# Altium schematic symbol library kalios.SchLib: 578 symbols (part 1 of 4)
Pins are listed as number, name and electrical type; pins without a type are passive.

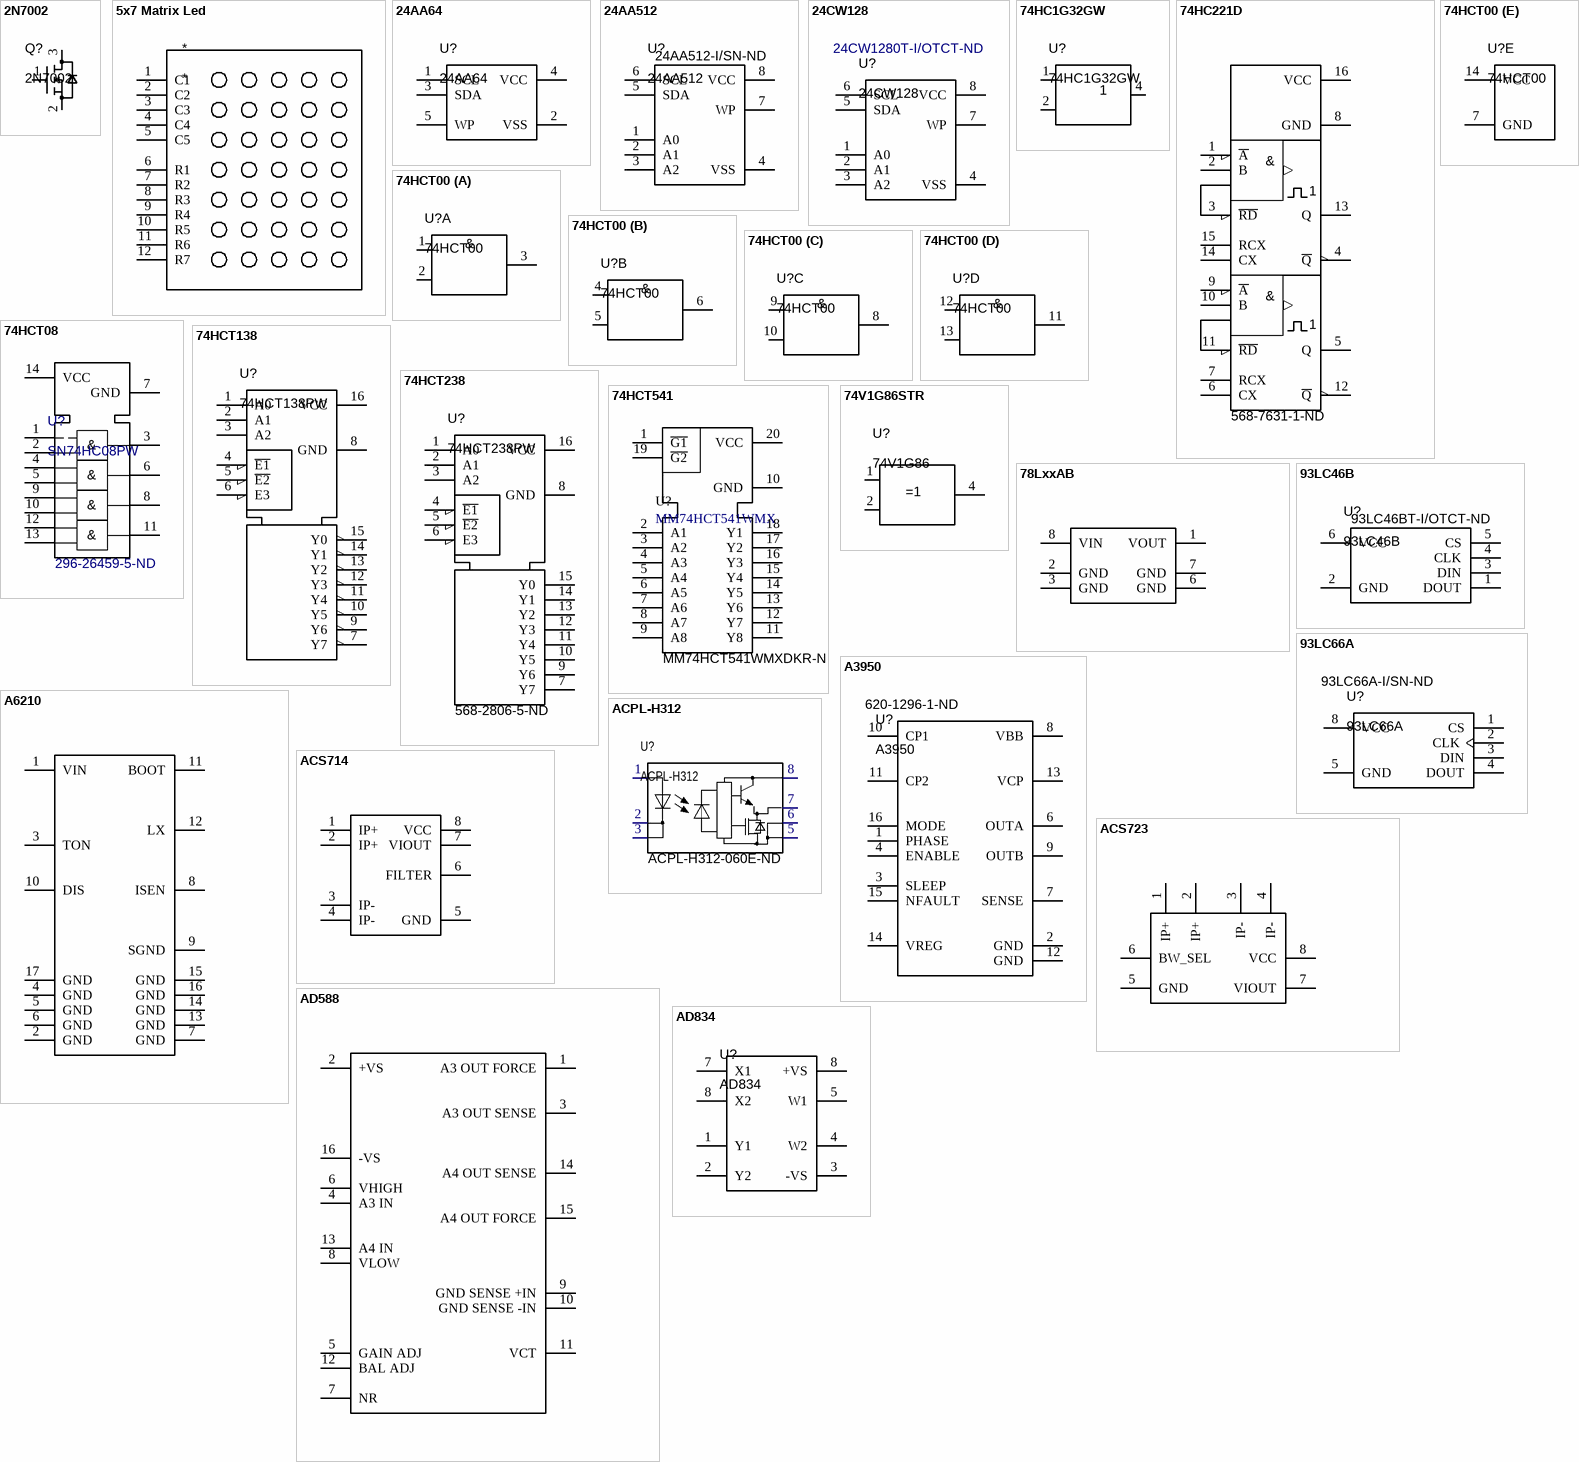
[diagram p0: symbols 2N7002 to AD834]

## 2N7002
designator Q?
MOSFET N-CH 60V 115MA SOT323; Value: 2N7002; Supplier 1: Digi-Key; Supplier Part Number 1: 2N7002H6327XTSA2CT-ND
footprint SOT323-3/SC-70/SOT65P210X110-3N
pins: 1 VCC, 2 VCC, 3 VCC

## 5x7 Matrix Led
designator *
pins: 1 C1, 2 C2, 3 C3, 4 C4, 5 C5, 6 R1, 7 R2, 8 R3, 9 R4, 10 R5, 11 R6, 12 R7

## 24AA64
designator U?
pins: 1 SCL, 2 VSS, 3 SDA, 4 VCC, 5 WP

## 24AA512
designator U?  Supplier Part Number 1: 24AA512-I/SN-ND
Supplier 1: Digi-Key
footprint SOIC8 (8-Pin Small Outline Integrated Circuit 1.27 mm Pitch, IPC Low Density)
pins: 1 A0, 2 A1, 3 A2, 4 VSS, 5 SDA, 6 SCL, 7 WP, 8 VCC

## 24CW128
designator U?  Supplier Part Number 1: 24CW1280T-I/OTCT-ND
Supplier 1: Digi-Key
footprint SOIC8 (8-Pin Small Outline Integrated Circuit 1.27 mm Pitch, IPC Low Density)
pins: 1 A0, 2 A1, 3 A2, 4 VSS, 5 SDA, 6 SCL, 7 WP, 8 VCC

## 74HC1G32GW
designator U?
2-input OR gate; Supplier 1: Farnell; Supplier 2: Digi-Key; Supplier Part Number 1: 1085255; Supplier Part Number 2: 74HC1G32GW,165-ND
footprint SOT23-5BL (SOT23, 5-Leads, Body 2.9x1.6mm, Pitch 0.95mm, Lead Span 2.8mm, IPC High Density)
pins: 1 B, 2 A, 3 GND (power) hidden to GND, 4 Y, 5 VCC (power) hidden to VCC

## 74HC221D
designator U?  Supplier Part Number 2: 568-7631-1-ND
IC DUAL MULTI-VIBRATOR 16SOIC; Supplier 1: Digi-Key; Supplier 2: Digi-Key
footprint SOIC16 (SOIC, 16-Leads, Body 10.0x4.0mm (max), Pitch 1.27mm, IPC Low Density)
pins: 1 ~{A}, 2 B, 3 ~{RD}, 4 ~{Q}, 5 Q, 6 CX, 7 RCX, 8 GND, 9 ~{A}, 10 B, 11 ~{RD}, 12 ~{Q}, 13 Q, 14 CX, 15 RCX, 16 VCC
text: &

## 74HCT00
designator U?
footprint SOIC14 (14-Pin Small Outline Integrated Circuit 1.27 mm Pitch, IPC Low Density)
part A pins: 1 A, 2 A, 3 A
part B pins: 4 A, 5 B, 6 Y
part C pins: 8 Y, 9 A, 10 B
part D pins: 11 Y, 12 A, 13 B
part E pins: 7 GND, 14 VCC
part A text: &
part B text: &
part C text: &
part D text: &

## 74HCT08
designator U?, comment SN74HC08PW  Supplier Part Number 1: 296-26459-5-ND
Supplier 1: Digi-Key; Value: SN74HC08PW
footprint TSSOP14 (Shrink Small Outline; 14 Leads; Body Width 4.4 mm; Pitch 0.65 mm)
pins: 1 1A, 2 1B, 3 1Y, 4 2A, 5 2B, 6 2Y, 7 GND, 8 3Y, 9 3A, 10 3B, 11 4Y, 12 4A, 13 4B, 14 VCC
text: &

## 74HCT138
designator U?, comment 74HCT138PW
3-to-8 line decoder/demultiplexer
footprint TSSOP16 (Footprint not found)
pins: 1 A0, 2 A1, 3 A2, 4 ~{E1}, 5 ~{E2}, 6 E3, 7 Y7, 8 GND, 9 Y6, 10 Y5, 11 Y4, 12 Y3, 13 Y2, 14 Y1, 15 Y0, 16 VCC

## 74HCT238
designator U?, comment 74HCT238PW  Supplier Part Number 1: 568-2806-5-ND
3-to-8 line decoder/demultiplexer; Supplier 1: Digi-Key
footprint TSSOP16 (Footprint not found)
pins: 1 A0, 2 A1, 3 A2, 4 ~{E1}, 5 ~{E2}, 6 E3, 7 Y7, 8 GND, 9 Y6, 10 Y5, 11 Y4, 12 Y3, 13 Y2, 14 Y1, 15 Y0, 16 VCC

## 74HCT541
designator U?, comment MM74HCT541WMX  Supplier Part Number 1: MM74HCT541WMXDKR-ND
IC BUFF/DVR TRI-ST 8BIT 20SOIC; Supplier 1: Digi-Key
footprint SOIC20 (SOIC, 20-Leads, Body 13.0x7.6mm (max), Pitch 1.27mm, IPC Low Density)
pins: 1 ~{G1}, 2 A1, 3 A2, 4 A3, 5 A4, 6 A5, 7 A6, 8 A7, 9 A8, 10 GND, 11 Y8, 12 Y7, 13 Y6, 14 Y5, 15 Y4, 16 Y3, 17 Y2, 18 Y1, 19 ~{G2}, 20 VCC

## 74V1G86STR
designator U?, comment 74V1G86
Value: 74V1G86
pins: 1 1A, 2 1B, 3 GND (power) hidden to GND, 4 Y, VCC 5 (power) hidden to VCC "VCC"

## 78LxxAB
designator U?
V REG LINEAR SOIC8; Supplier 1: Digi-Key
footprint SOIC8 (8-Pin Small Outline Integrated Circuit 1.27 mm Pitch, IPC Low Density)
pins: 1 VOUT, 2 GND, 3 GND, 6 GND, 7 GND, 8 VIN

## 93LC46B
designator U?  Supplier Part Number 1: 93LC46BT-I/OTCT-ND
Supplier 1: Digi-Key
footprint SOT23-6 (SOT23, 6-Leads, Body 3.1x3.2mm (max), Pitch 0.95mm, IPC Medium Density)
pins: 1 DOUT, 2 GND, 3 DIN, 4 CLK, 5 CS, 6 VCC

## 93LC66A
designator U?  Supplier Part Number 1: 93LC66A-I/SN-ND
Supplier 1: Digi-Key
footprint soic8 (8-Pin Small Outline Integrated Circuit 1.27 mm Pitch, IPC Low Density)
pins: 1 CS, 2 CLK, 3 DIN, 4 DOUT, 5 GND, 8 VCC

## A3950
designator U?  Supplier Part Number 1: 620-1296-1-ND
Supplier 1: Digi-Key
pins: 1 PHASE, 2 GND, 3 SLEEP, 4 ENABLE, 6 OUTA, 7 SENSE, 8 VBB, 9 OUTB, 10 CP1, 11 CP2, 12 GND, 13 VCP, 14 VREG, 15 NFAULT, 16 MODE

## A6210
designator U?
IC LED DRIVER HIGH BRIGHT 16-QFN; Supplier 1: Digi-Key
footprint QFN16 (Footprint not found)
pins: 1 VIN, 2 GND, 3 TON, 4 GND, 5 GND, 6 GND, 7 GND, 8 ISEN, 9 SGND, 10 DIS, 11 BOOT, 12 LX, 13 GND, 14 GND, 15 GND, 16 GND, 17 GND

## ACPL-H312
designator U?  Supplier Part Number 2: ACPL-H312-060E-ND
Supplier 1: Farnell; Supplier 2: Digi-Key
footprint ACPL-H
pins: 1 A, 2 C, 3 C, 5 VEE, 6 VEE, 7 VO, 8 VCC

## ACS714
designator U?
Supplier 1: Digi-Key
footprint SOIC8 (8-Pin Small Outline Integrated Circuit 1.27 mm Pitch, IPC Low Density)
pins: 1 IP+, 2 IP+, 3 IP-, 4 IP-, 5 GND, 6 FILTER, 7 VIOUT, 8 VCC

## ACS723
designator U?, comment ACS723LLCTR-10AU-T  Supplier Part Number 1: 620-1643-1-ND
Supplier 1: Digi-Key
footprint SOIC8 (8-Pin Small Outline Integrated Circuit 1.27 mm Pitch, IPC Low Density)
pins: 1 IP+, 2 IP+, 3 IP-, 4 IP-, 5 GND, 6 BW_SEL, 7 VIOUT, 8 VCC

## AD588
designator D?, comment LTST-C170CKT
Led 0805 Red; Supplier 1: Digi-Key
footprint SOIC127P1030X265-16N (SOIC, 16-Leads, Body 10.5x7.6mm (max), Pitch 1.27mm, IPC Medium Density)
pins: 1 A3 OUT FORCE, 2 +VS, 3 A3 OUT SENSE, 4 A3 IN, 5 GAIN ADJ, 6 VHIGH, 7 NR, 8 VLOW, 9 GND SENSE +IN, 10 GND SENSE -IN, 11 VCT, 12 BAL ADJ, 13 A4 IN, 14 A4 OUT SENSE, 15 A4 OUT FORCE, 16 -VS

## AD834
designator U?
footprint SOIC8 (8-Pin Small Outline Integrated Circuit 1.27 mm Pitch, IPC Low Density)
pins: 1 Y1, 2 Y2, 3 -VS, 4 W2, 5 W1, 7 X1, 8 X2, 8 +VS

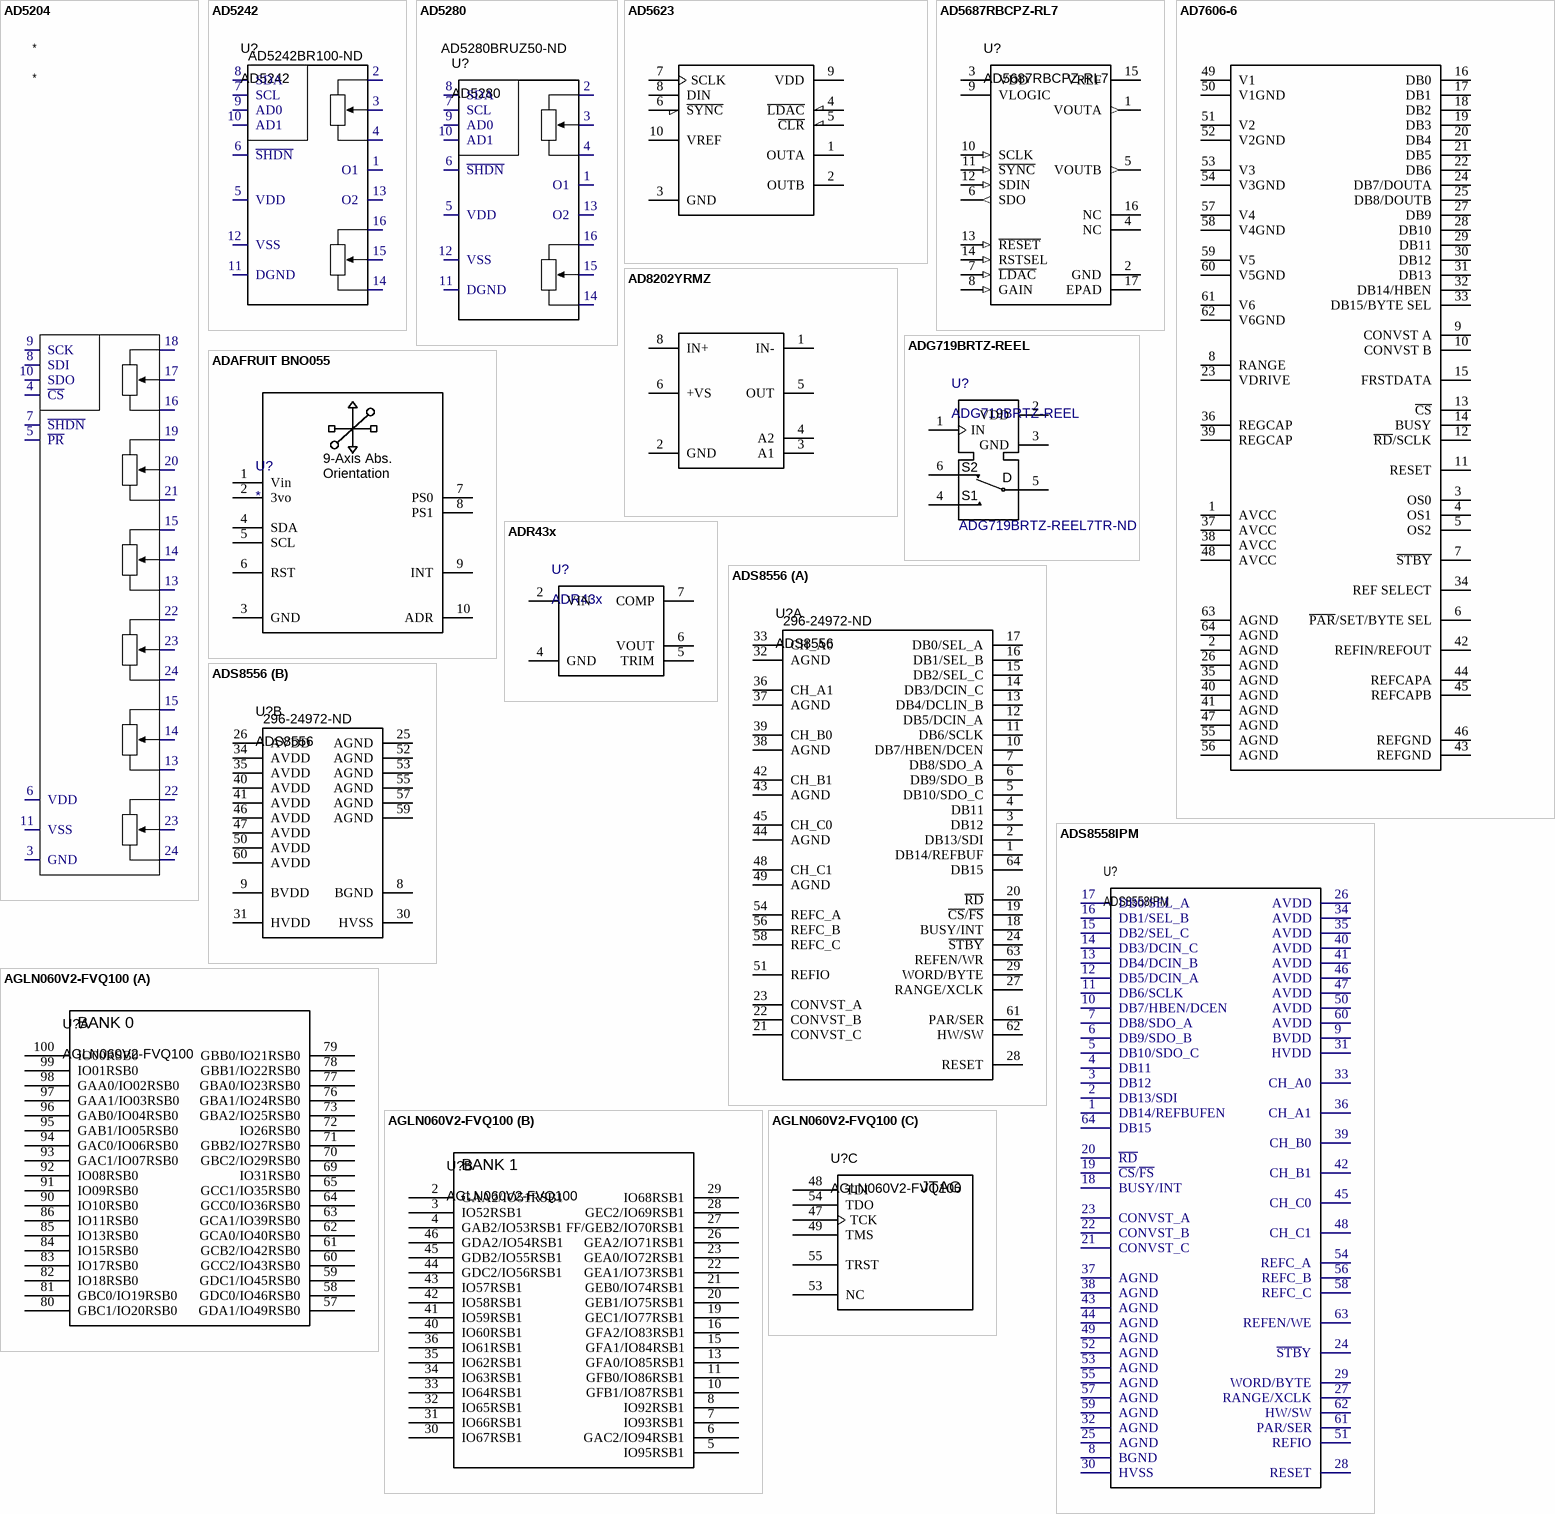
[diagram p1: symbols AD5204 to AGLN060V2-FVQ100]

## AD5204
designator *
pins: 3 GND, 4 ~{CS}, 5 ~{PR}, 6 VDD, 7 ~{SHDN}, 8 SDI, 9 SCK, 10 SDO, 11 VSS, 13 B3, 13 B5, 14 W3, 14 W5, 15 A3, 15 A5, 16 B1, 17 W1, 18 A1, 19 A2, 20 W2, 21 B2, 22 A4, 22 A6, 23 W4, 23 W6, 24 B4, 24 B6

## AD5242
designator U?  Supplier Part Number 1: AD5242BR100-ND
Supplier 1: Digi-Key
footprint SOIC16 (SOIC, 16-Leads, Body 10.0x4.0mm (max), Pitch 1.27mm, IPC Low Density)
pins: 1 O1, 2 A1, 3 W1, 4 B1, 5 VDD, 6 ~{SHDN}, 7 SCL, 8 SDA, 9 AD0, 10 AD1, 11 DGND, 12 VSS, 13 O2, 14 B2, 15 W2, 16 A2

## AD5280
designator U?  Supplier Part Number 1: AD5280BRUZ50-ND
Supplier 1: Digi-Key
footprint SOIC16 (SOIC, 16-Leads, Body 10.0x4.0mm (max), Pitch 1.27mm, IPC Low Density)
pins: 1 O1, 2 A1, 3 W1, 4 B1, 5 VDD, 6 ~{SHDN}, 7 SCL, 8 SDA, 9 AD0, 10 AD1, 11 DGND, 12 VSS, 13 O2, 14 B2, 15 W2, 16 A2

## AD5623
designator U?, comment AD5623 RBRMZ-3
Dual DAC; Supplier 1: Digi-Key
footprint MSOP10 (TSSOP, 10-Leads, Body 3.00x3.00mm, Pitch 0.50mm, Thermal Pad 1.68.2x1.68.2mm, IPC Medium Density)
pins: 1 OUTA, 2 OUTB, 3 GND, 4 ~{LDAC}, 5 ~{CLR}, 6 ~{SYNC}, 7 SCLK, 8 DIN, 9 VDD, 10 VREF

## AD5687RBCPZ-RL7
designator U?
12 Bit Digital to Analog Converter 2 16-LFCSP (3x3); Supplier 1: Digi-Key; Supplier Part Number 1: 505-AD5687RBCPZ-RL7CT-ND
pins: 1 VOUTA (out) "Analog Output Voltage from DAC A", 2 GND (power), 3 VDD (power) "Power Supply Input", 4 NC, 5 VOUTB (out) "Analog Output Voltage from DAC B", 6 SDO (out), 7 ~{LDAC} (in), 8 GAIN (in), 9 VLOGIC (power) "Digital Power Supply", 10 SCLK (in), 11 ~{SYNC} (in), 12 SDIN (in), 13 ~{RESET} (in), 14 RSTSEL (in), 15 VREF, 16 NC, 17 EPAD

## AD7606-6
designator U?  Supplier Part Number 2: AD7606BSTZ-6RLCT-ND
IC DAS W/ADC 16BIT 6CH 64LQFP; Supplier 1: Digi-Key; Supplier 2: Digi-Key
footprint LQFP-64 (64-Pin Thin Quad Flat Pack 0.5 mm Pitch, IPC High Density)
pins: 1 AVCC, 2 AGND, 3 OS0, 4 OS1, 5 OS2, 6 ~{PAR}/SET/BYTE SEL, 7 ~{STBY}, 8 RANGE, 9 CONVST A, 10 CONVST B, 11 RESET, 12 ~{RD}/SCLK, 13 ~{CS}, 14 BUSY, 15 FRSTDATA, 16 DB0, 17 DB1, 18 DB2, 19 DB3, 20 DB4, 21 DB5, 22 DB6, 23 VDRIVE, 24 DB7/DOUTA, 25 DB8/DOUTB, 26 AGND, 27 DB9, 28 DB10, 29 DB11, 30 DB12, 31 DB13, 32 DB14/HBEN, 33 DB15/BYTE SEL, 34 REF SELECT, 35 AGND, 36 REGCAP, 37 AVCC, 38 AVCC, 39 REGCAP, 40 AGND, 41 AGND, 42 REFIN/REFOUT, 43 REFGND, 44 REFCAPA, 45 REFCAPB, 46 REFGND, 47 AGND, 48 AVCC, 49 V1, 50 V1GND, 51 V2, 52 V2GND, 53 V3, 54 V3GND, 55 AGND, 56 AGND, 57 V4, 58 V4GND, 59 V5, 60 V5GND, 61 V6, 62 V6GND, 63 AGND, 64 AGND

## AD8202YRMZ
designator U?
DIfferential Amplifier; Supplier 1: Digi-Key
footprint MSOP8
pins: 1 IN-, 2 GND, 3 A1, 4 A2, 5 OUT, 6 +VS, 8 IN+

## ADAFRUIT BNO055
designator U?
footprint ADAFRUIT-BNO055
pins: 1 Vin, 2 3vo, 3 GND, 4 SDA, 5 SCL, 6 RST, 7 PS0, 8 PS1, 9 INT, 10 ADR
text: 9-Axis Abs.; Orientation

## ADG719BRTZ-REEL
designator U?  Supplier Part Number 1: ADG719BRTZ-REEL7TR-ND
IC SWITCH SPDT SOT23-6 / 1 Circuit IC Switch 2:1 4Ohm SOT-23-6; Supplier 1: Digi-Key
footprint SOT23-6 (SOT23, 6-Leads, Body 3.1x3.2mm (max), Pitch 0.95mm, IPC Medium Density)
pins: 1 IN, 2 VDD, 3 GND, 4 S1, 5 D, 6 S2
1 alternate drawing of the same symbol

## ADR43x
designator U?
Voltage reference
footprint SOIC8 (8-Pin Small Outline Integrated Circuit 1.27 mm Pitch, IPC Low Density)
pins: 2 VIN, 4 GND, 5 TRIM, 6 VOUT, 7 COMP

## ADS8556
designator U?  Supplier Part Number 1: 296-24972-ND
ADC 16-Bit Six Channel Simultaneous Sampling; Supplier 1: Digi-Key
footprint LQFP-64 (64-Pin Thin Quad Flat Pack 0.5 mm Pitch, IPC High Density)
part A pins: 1 DB14/REFBUF, 2 DB13/SDI, 3 DB12, 4 DB11, 5 DB10/SDO_C, 6 DB9/SDO_B, 7 DB8/SDO_A, 10 DB7/HBEN/DCEN, 11 DB6/SCLK, 12 DB5/DCIN_A, 13 DB4/DCLIN_B, 14 DB3/DCIN_C, 15 DB2/SEL_C, 16 DB1/SEL_B, 17 DB0/SEL_A, 18 BUSY/INT, 19 ~{CS}/~{FS}, 20 ~{RD}, 21 CONVST_C, 22 CONVST_B, 23 CONVST_A, 24 ~{STBY}, 27 RANGE/XCLK, 28 RESET, 29 WORD/BYTE, 32 AGND, 33 CH_A0, 36 CH_A1, 37 AGND, 38 AGND, 39 CH_B0, 42 CH_B1, 43 AGND, 44 AGND, 45 CH_C0, 48 CH_C1, 49 AGND, 51 REFIO, 54 REFC_A, 56 REFC_B, 58 REFC_C, 61 PAR/SER, 62 HW/SW, 63 REFEN/WR, 64 DB15
part B pins: 8 BGND, 9 BVDD, 25 AGND, 26 AVDD, 30 HVSS, 31 HVDD, 34 AVDD, 35 AVDD, 40 AVDD, 41 AVDD, 46 AVDD, 47 AVDD, 50 AVDD, 52 AGND, 53 AGND, 55 AGND, 57 AGND, 59 AGND, 60 AVDD

## ADS8558IPM
designator U?
Six-Channel, Simultaneous Sampling ANALOG-TO-DIGITAL CONVERTERS
footprint LQFP64_M (64-Pin Thin Quad Flat Pack 0.8 mm Pitch, IPC Low Density)
pins: 1 DB14/REFBUFEN, 2 DB13/SDI, 3 DB12, 4 DB11, 5 DB10/SDO_C, 6 DB9/SDO_B, 7 DB8/SDO_A, 8 BGND, 9 BVDD, 10 DB7/HBEN/DCEN, 11 DB6/SCLK, 12 DB5/DCIN_A, 13 DB4/DCIN_B, 14 DB3/DCIN_C, 15 DB2/SEL_C, 16 DB1/SEL_B, 17 DB0/SEL_A, 18 BUSY/INT, 19 ~{CS}/~{FS}, 20 ~{RD}, 21 CONVST_C, 22 CONVST_B, 23 CONVST_A, 24 ~{STB}Y, 25 AGND, 26 AVDD, 27 RANGE/XCLK, 28 RESET, 29 WORD/BYTE, 30 HVSS, 31 HVDD, 32 AGND, 33 CH_A0, 34 AVDD, 35 AVDD, 36 CH_A1, 37 AGND, 38 AGND, 39 CH_B0, 40 AVDD, 41 AVDD, 42 CH_B1, 43 AGND, 44 AGND, 45 CH_C0, 46 AVDD, 47 AVDD, 48 CH_C1, 49 AGND, 50 AVDD, 51 REFIO, 52 AGND, 53 AGND, 54 REFC_A, 55 AGND, 56 REFC_B, 57 AGND, 58 REFC_C, 59 AGND, 60 AVDD, 61 PAR/SER, 62 HW/SW, 63 REFEN/WE, 64 DB15

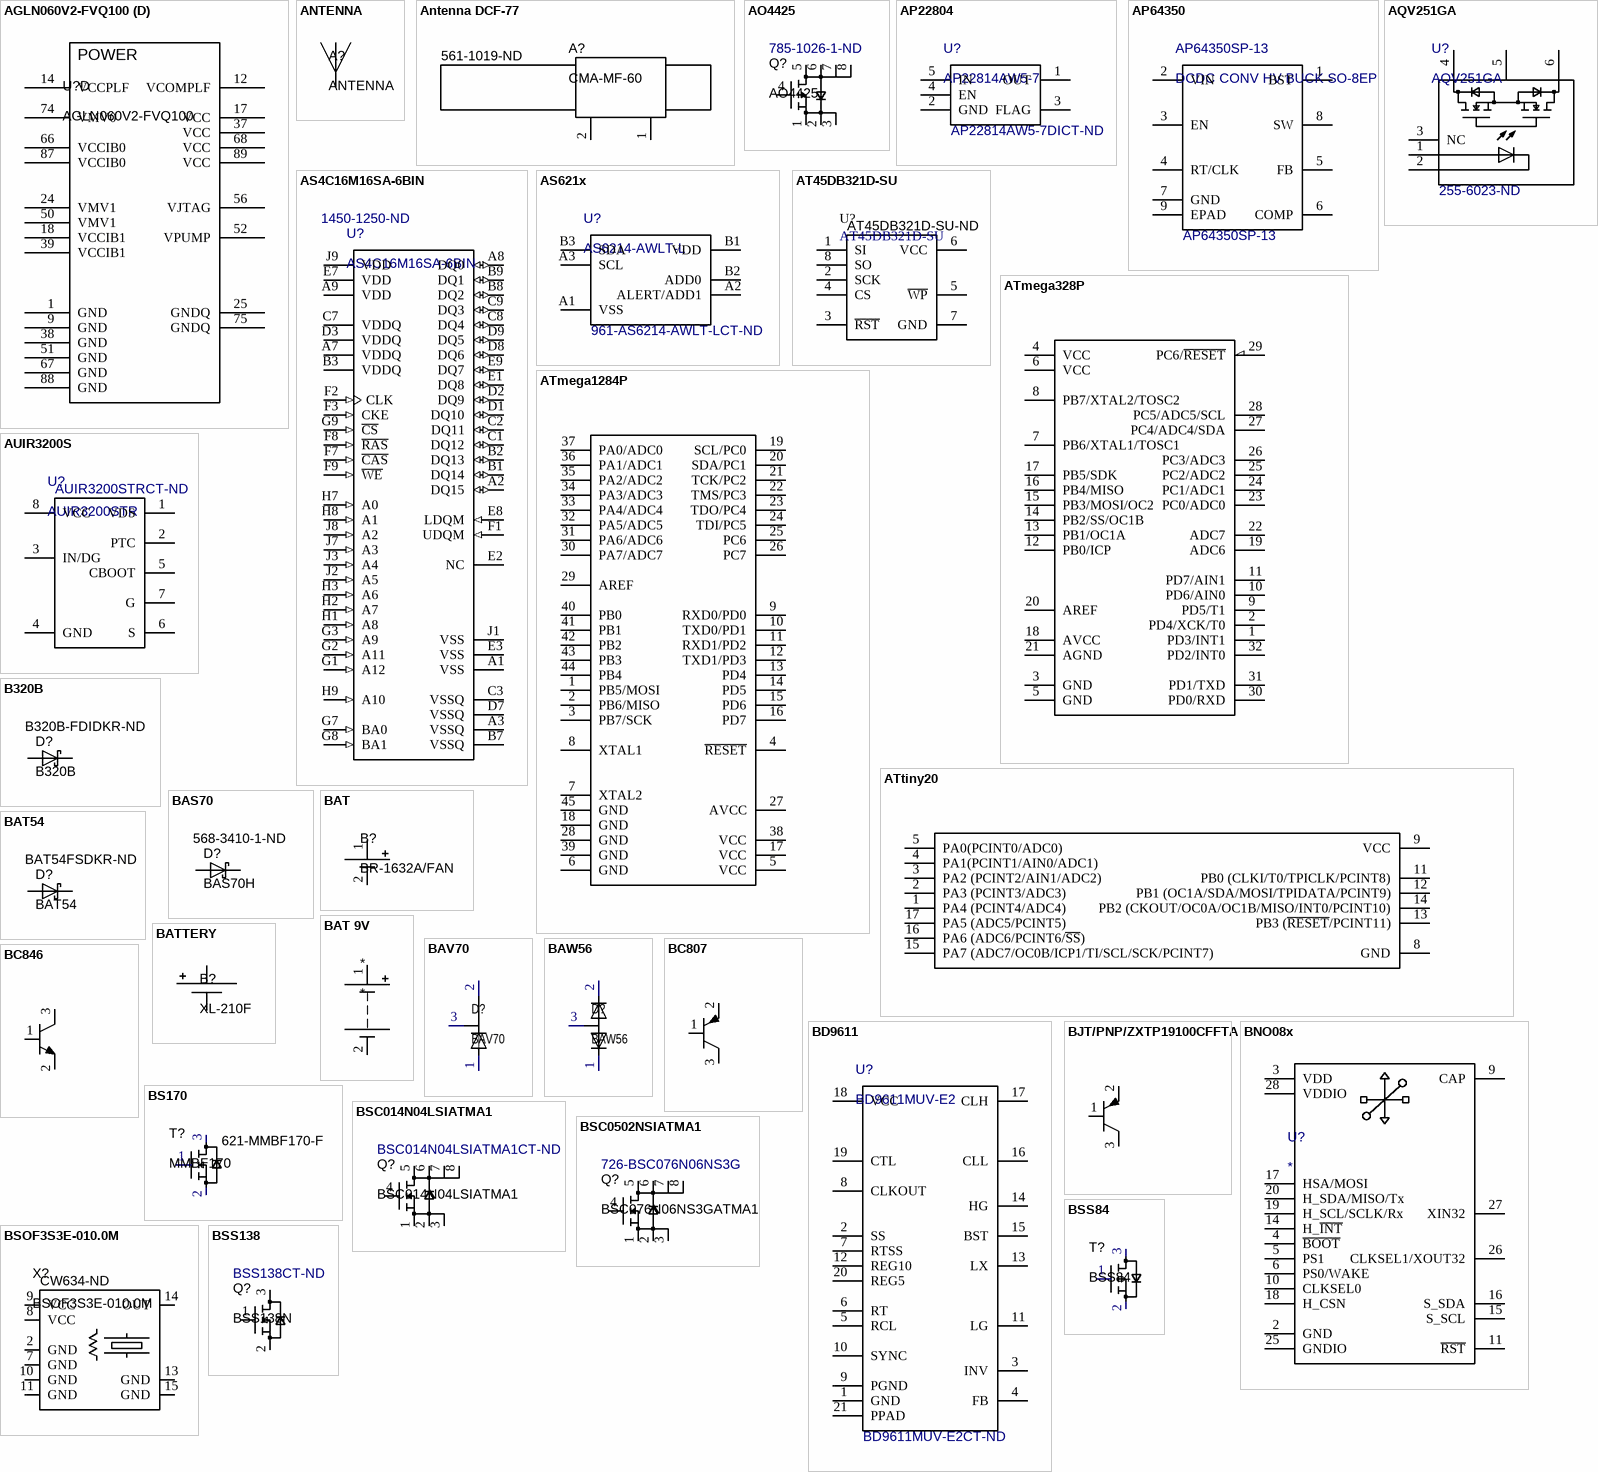
[diagram p2: symbols AGLN060V2-FVQ100 to BSS138]

## AGLN060V2-FVQ100
designator U?
IGLOO nano Low-Power Flash 1.2 to 1.5V FPGA with Flash*Freeze, 71 User IOs, 60K System Gates, 1Kbit Flash ROM, 100-Pin TQFP, Commercial Grade
footprint VQFP100 (TSQFP, 100-Leads, Body 16.0x16.0mm (max), Pitch 0.50mm, IPC Medium Density)
part A pins: 57 GDA1/IO49RSB0, 58 GDC0/IO46RSB0, 59 GDC1/IO45RSB0, 60 GCC2/IO43RSB0, 61 GCB2/IO42RSB0, 62 GCA0/IO40RSB0, 63 GCA1/IO39RSB0, 64 GCC0/IO36RSB0, 65 GCC1/IO35RSB0, 69 IO31RSB0, 70 GBC2/IO29RSB0, 71 GBB2/IO27RSB0, 72 IO26RSB0, 73 GBA2/IO25RSB0, 76 GBA1/IO24RSB0, 77 GBA0/IO23RSB0, 78 GBB1/IO22RSB0, 79 GBB0/IO21RSB0, 80 GBC1/IO20RSB0, 81 GBC0/IO19RSB0, 82 IO18RSB0, 83 IO17RSB0, 84 IO15RSB0, 85 IO13RSB0, 86 IO11RSB0, 90 IO10RSB0, 91 IO09RSB0, 92 IO08RSB0, 93 GAC1/IO07RSB0, 94 GAC0/IO06RSB0, 95 GAB1/IO05RSB0, 96 GAB0/IO04RSB0, 97 GAA1/IO03RSB0, 98 GAA0/IO02RSB0, 99 IO01RSB0, 100 IO00RSB0
part B pins: 2 GAA2/IO51RSB1, 3 IO52RSB1, 4 GAB2/IO53RSB1, 5 IO95RSB1, 6 GAC2/IO94RSB1, 7 IO93RSB1, 8 IO92RSB1, 10 GFB1/IO87RSB1, 11 GFB0/IO86RSB1, 13 GFA0/IO85RSB1, 15 GFA1/IO84RSB1, 16 GFA2/IO83RSB1, 19 GEC1/IO77RSB1, 20 GEB1/IO75RSB1, 21 GEB0/IO74RSB1, 22 GEA1/IO73RSB1, 23 GEA0/IO72RSB1, 26 GEA2/IO71RSB1, 27 FF/GEB2/IO70RSB1, 28 GEC2/IO69RSB1, 29 IO68RSB1, 30 IO67RSB1, 31 IO66RSB1, 32 IO65RSB1, 33 IO64RSB1, 34 IO63RSB1, 35 IO62RSB1, 36 IO61RSB1, 40 IO60RSB1, 41 IO59RSB1, 42 IO58RSB1, 43 IO57RSB1, 44 GDC2/IO56RSB1, 45 GDB2/IO55RSB1, 46 GDA2/IO54RSB1
part C pins: 47 TCK, 48 TDI, 49 TMS, 53 NC, 54 TDO, 55 TRST
part D pins: 1 GND, 9 GND, 12 VCOMPLF, 14 VCCPLF, 17 VCC, 18 VCCIB1, 24 VMV1, 25 GNDQ, 37 VCC, 38 GND, 39 VCCIB1, 50 VMV1, 51 GND, 52 VPUMP, 56 VJTAG, 66 VCCIB0, 67 GND, 68 VCC, 74 VMV0, 75 GNDQ, 87 VCCIB0, 88 GND, 89 VCC
part A text: BANK 0
part B text: BANK 1
part C text: JTAG
part D text: POWER

## ANTENNA
designator A?
pins: 1

## Antenna DCF-77
designator A?, comment CMA-MF-60  Supplier Part Number 1: 561-1019-ND
Supplier 1: Digi-Key
pins: 1, 2

## AO4425
designator Q?  Supplier Part Number 1: 785-1026-1-ND
P-Channel 38 V 14A (Ta) 3.1W (Ta) Surface Mount 8-SOIC; Value: AO4425; Supplier 1: Digi-Key
footprint SOIC8 (8-Pin Small Outline Integrated Circuit 1.27 mm Pitch, IPC Low Density)
pins: 1 S, 2 S, 3 S, 4 Gate, 5 D, 6 D, 7 D, 8 D

## AP22804
designator U?, comment AP22814AW5-7  Supplier Part Number 1: AP22814AW5-7DICT-ND
Supplier 1: Digi-Key
footprint SOT23-5 (SOT23, 5-Leads, Body 3.0x2.6mm (max), Pitch 0.95mm, IPC Low Density)
pins: 1 OUT, 2 GND, 3 FLAG, 4 EN, 5 IN

## AP64350
designator AP64350SP-13, comment DCDC CONV HV BUCK SO-8EP  Supplier Part Number 1: AP64350SP-13
Buck Switching Regulator IC Positive Adjustable 0.8V 1 Output 3.5A 8-SOIC (0.154", 3.90mm Width) Exposed Pad; Supplier 1: Avnet
footprint SOIC8-POWER_PAD (8-Pin Small Outline Integrated Circuit 1.27 mm Pitch, IPC Low Density)
pins: 1 BST, 2 VIN, 3 EN, 4 RT/CLK, 5 FB, 6 COMP, 7 GND, 8 SW, 9 EPAD

## AQV251GA
designator U?  Supplier Part Number 1: 255-6023-ND
Supplier 1: Digi-Key
footprint SDIP6 (8-Pin Small Outline Integrated Circuit 1.27 mm Pitch, IPC Low Density)
pins: 1, 2, 3 NC, 4, 5, 6

## AS4C16M16SA-6BIN
designator U?  Supplier Part Number 1: 1450-1250-ND
SDRAM Memory IC 256Mb (16M x 16) Parallel 166 MHz 5 ns 54-TFBGA (8x8); Supplier 1: Digi-Key
footprint TFBGA-54
pins: A1 VSS (power), A2 DQ15 (io), A3 VSSQ (power), A7 VDDQ (power), A8 DQ0 (io), A9 VDD (power), B1 DQ14 (io), B2 DQ13 (io), B3 VDDQ (power), B7 VSSQ (power), B8 DQ2 (io), B9 DQ1 (io), C1 DQ12 (io), C2 DQ11 (io), C3 VSSQ (power), C7 VDDQ (power), C8 DQ4 (io), C9 DQ3 (io), D1 DQ10 (io), D2 DQ9 (io), D3 VDDQ (power), D7 VSSQ (power), D8 DQ6 (io), D9 DQ5 (io), E1 DQ8 (io), E2 NC, E3 VSS (power), E7 VDD (power), E8 LDQM (in), E9 DQ7 (io), F1 UDQM (in), F2 CLK (in), F3 CKE (in), F7 ~{CAS} (in), F8 ~{RAS} (in), F9 ~{WE} (in), G1 A12 (in), G2 A11 (in), G3 A9 (in), G7 BA0 (in), G8 BA1 (in), G9 ~{CS} (in), H1 A8 (in), H2 A7 (in), H3 A6 (in), H7 A0 (in), H8 A1 (in), H9 A10 (in), J1 VSS (power), J2 A5 (in), J3 A4 (in), J7 A3 (in), J8 A2 (in), J9 VDD (power)

## AS621x
designator U?, comment AS6214-AWLT-L  Supplier Part Number 1: 961-AS6214-AWLT-LCT-ND
Temperature Sensor Digital, Local -40°C ~ 125°C 16 b 6-WLCSP (1.5x1); Supplier 1: Digi-Key
pins: A1 VSS, A2 ALERT/ADD1, A3 SCL, B1 VDD, B2 ADD0, B3 SDA

## AT45DB321D-SU
designator U?  Supplier Part Number 1: AT45DB321D-SU-ND
IC FLASH 32MBIT 66MHZ 8SOIC; Supplier 1: Digi-Key
footprint SOIC8 (8-Pin Small Outline Integrated Circuit 1.27 mm Pitch, IPC Low Density)
pins: 1 SI, 2 SCK, 3 ~{RST}, 4 CS, 5 ~{WP}, 6 VCC, 7 GND, 8 SO

## ATmega328P
designator U?
Supplier 1: Digi-Key
footprint TQFP44 (Footprint not found)
pins: 1 PD3/INT1, 2 PD4/XCK/T0, 3 GND, 4 VCC, 5 GND, 6 VCC, 7 PB6/XTAL1/TOSC1, 8 PB7/XTAL2/TOSC2, 9 PD5/T1, 10 PD6/AIN0, 11 PD7/AIN1, 12 PB0/ICP, 13 PB1/OC1A, 14 PB2/SS/OC1B, 15 PB3/MOSI/OC2, 16 PB4/MISO, 17 PB5/SDK, 18 AVCC, 19 ADC6, 20 AREF, 21 AGND, 22 ADC7, 23 PC0/ADC0, 24 PC1/ADC1, 25 PC2/ADC2, 26 PC3/ADC3, 27 PC4/ADC4/SDA, 28 PC5/ADC5/SCL, 29 PC6/~{RESET}, 30 PD0/RXD, 31 PD1/TXD, 32 PD2/INT0

## ATmega1284P
designator U?
Supplier 1: Digi-Key
footprint TQFP44 (Footprint not found)
pins: 1 PB5/MOSI, 2 PB6/MISO, 3 PB7/SCK, 4 ~{RESET}, 5 VCC, 6 GND, 7 XTAL2, 8 XTAL1, 9 RXD0/PD0, 10 TXD0/PD1, 11 RXD1/PD2, 12 TXD1/PD3, 13 PD4, 14 PD5, 15 PD6, 16 PD7, 17 VCC, 18 GND, 19 SCL/PC0, 20 SDA/PC1, 21 TCK/PC2, 22 TMS/PC3, 23 TDO/PC4, 24 TDI/PC5, 25 PC6, 26 PC7, 27 AVCC, 28 GND, 29 AREF, 30 PA7/ADC7, 31 PA6/ADC6, 32 PA5/ADC5, 33 PA4/ADC4, 34 PA3/ADC3, 35 PA2/ADC2, 36 PA1/ADC1, 37 PA0/ADC0, 38 VCC, 39 GND, 40 PB0, 41 PB1, 42 PB2, 43 PB3, 44 PB4, 45 GND

## ATtiny20
designator U?, comment ATiny20
ATiny 8bit MCU; Supplier 1: Digi-Key
pins: 1 PA4 (PCINT4/ADC4), 2 PA3 (PCINT3/ADC3), 3 PA2 (PCINT2/AIN1/ADC2), 4 PA1(PCINT1/AIN0/ADC1), 5 PA0(PCINT0/ADC0), 8 GND, 9 VCC, 11 PB0 (CLKI/T0/TPICLK/PCINT8), 12 PB1 (OC1A/SDA/MOSI/TPIDATA/PCINT9), 13 PB3 (~{RESET}/PCINT11), 14 PB2 (CKOUT/OC0A/OC1B/MISO/INT0/PCINT10), 15 PA7 (ADC7/OC0B/ICP1/TI/SCL/SCK/PCINT7), 16 PA6 (ADC6/PCINT6/~{SS}), 17 PA5 (ADC5/PCINT5)

## AUIR3200S
designator U?, comment AUIR3200STR  Supplier Part Number 1: AUIR3200STRCT-ND
IC GATE DRVR HIGH-SIDE 8SOIC; Value: AUIR3200STR; Supplier 1: Digi-Key
footprint SOIC8 (8-Pin Small Outline Integrated Circuit 1.27 mm Pitch, IPC Low Density)
pins: 1 VDS, 2 PTC, 3 IN/DG, 4 GND, 5 CBOOT, 6 S, 7 G, 8 VCC

## B320B
designator D?  Supplier Part Number 1: B320B-FDIDKR-ND
3.0A Surface Mount Schottky Barrier Rectifier; Supplier 1: Digi-Key
footprint DO-214 (Footprint not found)
pins: 1, 2

## BAS70
designator D?, comment BAS70H  Supplier Part Number 1: 568-3410-1-ND
DIODE SCHOTTKY 70V 70MA SOD123; Supplier 1: Digi-Key
footprint SOD123F (Molded Diode, 2-Leads, Body 3.5x1.6mm, IPC Medium Density)
pins: 1, 2

## BAT
designator B?, comment BR-1632A/FAN
pins: 1 +, 2 -

## BAT54
designator D?  Supplier Part Number 1: BAT54FSDKR-ND
Surface Mount Schottky Barrier Rectifier; Supplier 1: Digi-Key
footprint SOT23-3 (SOT23, 3-Leads, Body 3.0x2.6mm (max), Pitch 0.95mm, IPC Low Density)
pins: 1, 3

## BAT 9V
designator *
footprint BATTERY HOLDER 9V
pins: 1 +, 2 -

## BATTERY
designator B?, comment XL-210F
pins: 1, 2

## BAV70
designator D?
pins: 1, 2, 3

## BAW56
designator D?
pins: 1, 2, 3

## BC807
designator T?
PNP Small Signal Transistor
footprint SOT23-3 (SOT23, 3-Leads, Body 3.0x2.6mm (max), Pitch 0.95mm, IPC Low Density)
pins: 1 VCC, 2 VCC, 3 VCC

## BC846
designator T?  Supplier Part Number 2: 568-4866-6-ND
NPN Small Signal Transistor; Supplier 1: Digi-Key; Supplier 2: Digi-Key
footprint SOT23-3 (SOT23, 3-Leads, Body 3.0x2.6mm (max), Pitch 0.95mm, IPC Low Density)
pins: 1 VCC, 2 VCC, 3 VCC

## BD9611
designator U?, comment BD9611MUV-E2  Supplier Part Number 1: BD9611MUV-E2CT-ND
Buck Regulator Positive Output Step-Down DC-DC Controller IC VQFN020V4040; Supplier 1: Digi-Key
pins: 1 GND, 2 SS, 3 INV, 4 FB, 5 RCL, 6 RT, 7 RTSS, 8 CLKOUT, 9 PGND, 10 SYNC, 11 LG, 12 REG10, 13 LX, 14 HG, 15 BST, 16 CLL, 17 CLH, 18 VCC, 19 CTL, 20 REG5, 21 PPAD

## BJT/PNP/ZXTP19100CFFTA
designator Q?, comment ZXTP19100CFFTA  Supplier Part Number 1: ZXTP19100CFFCT-ND
PNP Small Signal Transistor; Supplier 1: Digi-Key
footprint SOT23-3 (SOT23, 3-Leads, Body 3.0x2.6mm (max), Pitch 0.95mm, IPC Low Density)
pins: 1 B, 2 E, 3 C

## BNO08x
designator U?
pins: 2 GND, 3 VDD, 4 ~{BOOT}, 5 PS1, 6 PS0/WAKE, 9 CAP, 10 CLKSEL0, 11 ~{RST}, 14 H_~{INT}, 15 S_SCL, 16 S_SDA, 17 HSA/MOSI, 18 H_CSN, 19 H_SCL/SCLK/Rx, 20 H_SDA/MISO/Tx, 25 GNDIO, 26 CLKSEL1/XOUT32, 27 XIN32, 28 VDDIO

## BS170
designator T?, comment MMBF170  Supplier Part Number 1: 621-MMBF170-F
N.channel TrenchMOS FET  Logic level; Supplier 1: Mouser
footprint SOT23-3 (SOT23, 3-Leads, Body 3.0x2.6mm (max), Pitch 0.95mm, IPC Low Density)
pins: 1 VCC, 2 S, 3 D

## BSC014N04LSIATMA1
designator Q?  Supplier Part Number 1: BSC014N04LSIATMA1CT-ND
N-Channel 40 V 31A (Ta), 100A (Tc) 2.5W (Ta), 96W (Tc) Surface Mount PG-TDSON-8 FL 1.45mOhm 55nC; Supplier 1: Digi-Key; Value: BSC014N04LSIATMA1
footprint PG-TDSON-8_INF
pins: 1 S, 2 S, 3 S, 4 Gate, 5 D, 6 D, 7 D, 8 D

## BSC0502NSIATMA1
designator Q?, comment BSC076N06NS3GATMA1  Supplier Part Number 1: 726-BSC076N06NS3G
MOSFET N-CH 30V 26A/100A TDSON / N-Channel 30V 26A (Ta), 100A (Tc) 2.5W (Ta), 43W (Tc) Surface Mount PG-TDSON-8-6; Supplier 1: Mouser
footprint PG-TDSON-8_INF
pins: 1 S, 2 S, 3 S, 4 Gate, 5 D, 6 D, 7 D, 8 D

## BSOF3S3E-010.0M
designator X?  Supplier Part Number 1: CW634-ND
OSC OCXO 10.0000MHZ 3.3V SMD; Supplier 1: Digi-Key
footprint BSOF3S3E
pins: 2 GND, 7 GND, 8 VCC, 9 VCC, 10 GND, 11 GND, 13 GND, 14 OUT, 15 GND

## BSS84
designator T?
P-channel enhancement mode vertical DMOS transistor
footprint SOIT23-3 (SOT23, 3-Leads, Body 3.0x2.6mm (max), Pitch 0.95mm, IPC Low Density)
pins: 1 VCC, 2 VCC, 3 VCC

## BSS138
designator Q?, comment BSS138N  Supplier Part Number 1: BSS138CT-ND
N-Channel Logic Level Enhancement Mode Field Effect Transistor; Value: BSS138N; Supplier 1: Digi-Key
footprint SOT23-3 (SOT23, 3-Leads, Body 3.0x2.6mm (max), Pitch 0.95mm, IPC Low Density)
pins: 1 G, 2 S, 3 D

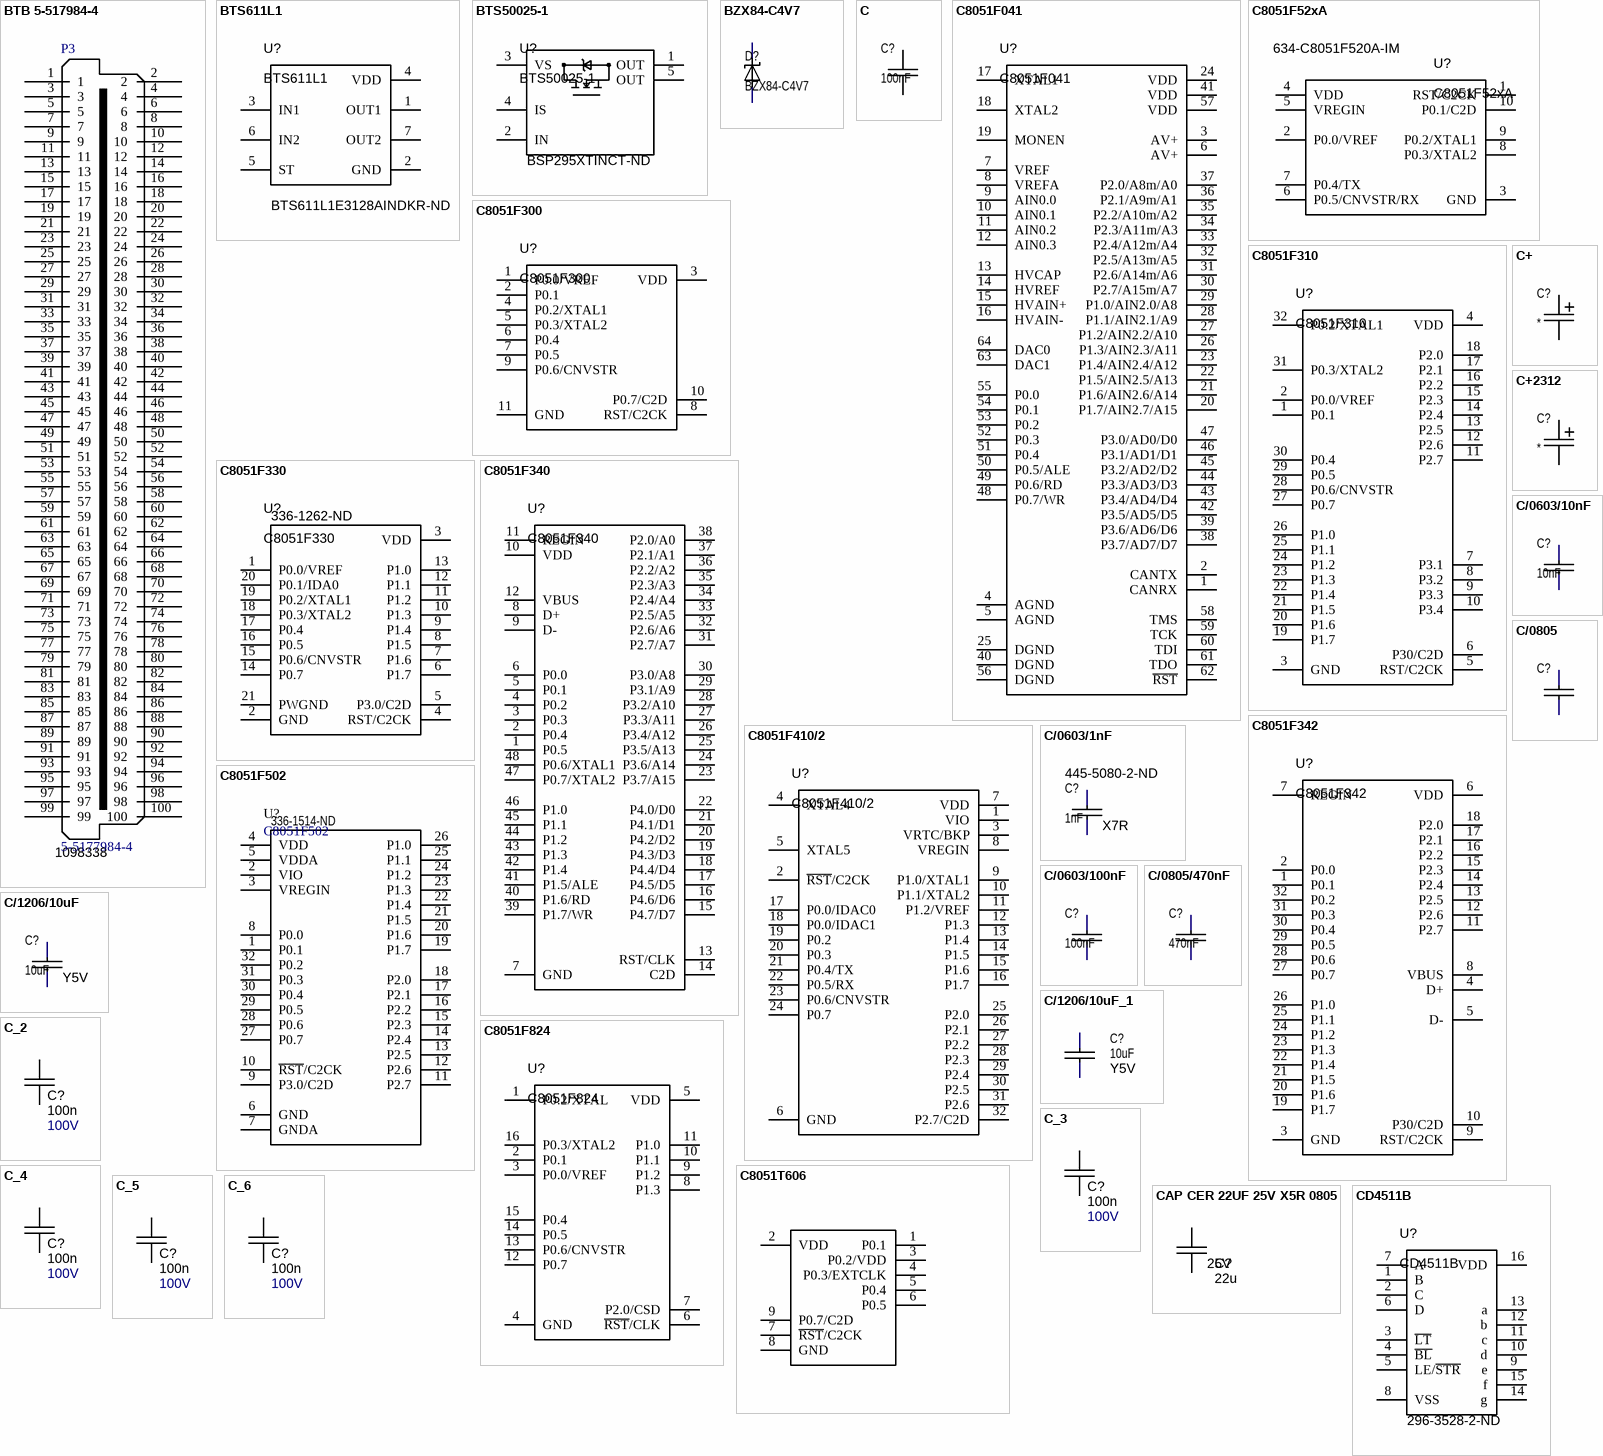
[diagram p3: symbols BTB 5-517984-4 to CD4511B]

## BTB 5-517984-4
designator P3, comment 5-5177984-4  Supplier Part Number 1: 1098338
Tyco M connector 100p 0.8mm pitch board to board; Supplier 1: Farnell
footprint AMP-5-5177984-4 (Connector board to board M 0.8mm pitch 100pin)
pins: 1, 2, 3, 4, 5, 6, 7, 8, 9, 10, 11, 12, 13, 14, 15, 16, 17, 18, 19, 20, 21, 22, 23, 24, 25, 26, 27, 28, 29, 30, 31, 32, 33, 34, 35, 36, 37, 38, 39, 40, 41, 42, 43, 44, 45, 46, 47, 48, 49, 50, 51, 52, 53, 54, 55, 56, 57, 58, 59, 60, 61, 62, 63, 64, 65, 66, 67, 68, 69, 70, 71, 72, 73, 74, 75, 76, 77, 78, 79, 80, 81, 82, 83, 84, 85, 86, 87, 88, 89, 90, 91, 92, 93, 94, 95, 96, 97, 98, 99, 100

## BTS611L1
designator U?  Supplier Part Number 1: BTS611L1E3128AINDKR-ND
Supplier 1: Digi-Key
pins: 1 OUT1, 2 GND, 3 IN1, 4 VDD, 5 ST, 6 IN2, 7 OUT2

## BTS50025-1
designator U?  Supplier Part Number 1: BSP295XTINCT-ND
N.channel TrenchMOS FET  Logic level; Supplier 1: Digi-Key
pins: 1 OUT, 2 IN, 3 VS, 4 IS, 5 OUT

## BZX84-C4V7
designator D?
pins: 1, 2

## C
designator C?, comment 100nF
Chip Capacitor
footprint SM/C0603 (Chip Capacitor, Body 1.6x0.8mm, IPC Low Density)
pins: 1, 2

## C8051F041
designator U?
pins: 1 CANRX, 2 CANTX, 3 AV+, 4 AGND, 5 AGND, 6 AV+, 7 VREF, 8 VREFA, 9 AIN0.0, 10 AIN0.1, 11 AIN0.2, 12 AIN0.3, 13 HVCAP, 14 HVREF, 15 HVAIN+, 16 HVAIN-, 17 XTAL1, 18 XTAL2, 19 MONEN, 20 P1.7/AIN2.7/A15, 21 P1.6/AIN2.6/A14, 22 P1.5/AIN2.5/A13, 23 P1.4/AIN2.4/A12, 24 VDD, 25 DGND, 26 P1.3/AIN2.3/A11, 27 P1.2/AIN2.2/A10, 28 P1.1/AIN2.1/A9, 29 P1.0/AIN2.0/A8, 30 P2.7/A15m/A7, 31 P2.6/A14m/A6, 32 P2.5/A13m/A5, 33 P2.4/A12m/A4, 34 P2.3/A11m/A3, 35 P2.2/A10m/A2, 36 P2.1/A9m/A1, 37 P2.0/A8m/A0, 38 P3.7/AD7/D7, 39 P3.6/AD6/D6, 40 DGND, 41 VDD, 42 P3.5/AD5/D5, 43 P3.4/AD4/D4, 44 P3.3/AD3/D3, 45 P3.2/AD2/D2, 46 P3.1/AD1/D1, 47 P3.0/AD0/D0, 48 P0.7/WR, 49 P0.6/RD, 50 P0.5/ALE, 51 P0.4, 52 P0.3, 53 P0.2, 54 P0.1, 55 P0.0, 56 DGND, 57 VDD, 58 TMS, 59 TCK, 60 TDI, 61 TDO, 62 ~{RST}, 63 DAC1, 64 DAC0

## C8051F52xA
designator U?  Supplier Part Number 1: 634-C8051F520A-IM
Supplier 1: Mouser
pins: 1 RST/C2CK, 2 P0.0/VREF, 3 GND, 4 VDD, 5 VREGIN, 6 P0.5/CNVSTR/RX, 7 P0.4/TX, 8 P0.3/XTAL2, 9 P0.2/XTAL1, 10 P0.1/C2D

## C8051F300
designator U?
IC 8051 MCU 8K FLASH 20MLP
footprint QFN50P400X400X80-20M (QFN, 20-Leads, Body 4.2x4.2mm (max), Pitch 0.50mm, IPC Low Density)
pins: 1 P0.0/VREF, 2 P0.1, 3 VDD, 4 P0.2/XTAL1, 5 P0.3/XTAL2, 6 P0.4, 7 P0.5, 8 RST/C2CK, 9 P0.6/CNVSTR, 10 P0.7/C2D, 11 GND

## C8051F310
designator U?
Silicon Laboratories
pins: 1 P0.1, 2 P0.0/VREF, 3 GND, 4 VDD, 5 RST/C2CK, 6 P30/C2D, 7 P3.1, 8 P3.2, 9 P3.3, 10 P3.4, 11 P2.7, 12 P2.6, 13 P2.5, 14 P2.4, 15 P2.3, 16 P2.2, 17 P2.1, 18 P2.0, 19 P1.7, 20 P1.6, 21 P1.5, 22 P1.4, 23 P1.3, 24 P1.2, 25 P1.1, 26 P1.0, 27 P0.7, 28 P0.6/CNVSTR, 29 P0.5, 30 P0.4, 31 P0.3/XTAL2, 32 P0.2/XTAL1

## C8051F330
designator U?  Supplier Part Number 1: 336-1262-ND
IC 8051 MCU 8K FLASH 20MLP; Supplier 1: Digi-Key
footprint QFN50P400X400X80-20M (QFN, 20-Leads, Body 4.2x4.2mm (max), Pitch 0.50mm, IPC Low Density)
pins: 1 P0.0/VREF, 2 GND, 3 VDD, 4 RST/C2CK, 5 P3.0/C2D, 6 P1.7, 7 P1.6, 8 P1.5, 9 P1.4, 10 P1.3, 11 P1.2, 12 P1.1, 13 P1.0, 14 P0.7, 15 P0.6/CNVSTR, 16 P0.5, 17 P0.4, 18 P0.3/XTAL2, 19 P0.2/XTAL1, 20 P0.1/IDA0, 21 PWGND

## C8051F340
designator U?
pins: 1 P0.5, 2 P0.4, 3 P0.3, 4 P0.2, 5 P0.1, 6 P0.0, 7 GND, 8 D+, 9 D-, 10 VDD, 11 REGIN, 12 VBUS, 13 RST/CLK, 14 C2D, 15 P4.7/D7, 16 P4.6/D6, 17 P4.5/D5, 18 P4.4/D4, 19 P4.3/D3, 20 P4.2/D2, 21 P4.1/D1, 22 P4.0/D0, 23 P3.7/A15, 24 P3.6/A14, 25 P3.5/A13, 26 P3.4/A12, 27 P3.3/A11, 28 P3.2/A10, 29 P3.1/A9, 30 P3.0/A8, 31 P2.7/A7, 32 P2.6/A6, 33 P2.5/A5, 34 P2.4/A4, 35 P2.3/A3, 36 P2.2/A2, 37 P2.1/A1, 38 P2.0/A0, 39 P1.7/WR, 40 P1.6/RD, 41 P1.5/ALE, 42 P1.4, 43 P1.3, 44 P1.2, 45 P1.1, 46 P1.0, 47 P0.7/XTAL2, 48 P0.6/XTAL1

## C8051F342
designator U?
Silicon Laboratories
footprint LQFP32 (TQFP, 32-Leads, Body 9.0x9.0mm (max), Pitch 0.80mm, IPC Medium Density)
pins: 1 P0.1, 2 P0.0, 3 GND, 4 D+, 5 D-, 6 VDD, 7 REGIN, 8 VBUS, 9 RST/C2CK, 10 P30/C2D, 11 P2.7, 12 P2.6, 13 P2.5, 14 P2.4, 15 P2.3, 16 P2.2, 17 P2.1, 18 P2.0, 19 P1.7, 20 P1.6, 21 P1.5, 22 P1.4, 23 P1.3, 24 P1.2, 25 P1.1, 26 P1.0, 27 P0.7, 28 P0.6, 29 P0.5, 30 P0.4, 31 P0.3, 32 P0.2

## C8051F410/2
designator U?
pins: 1 VIO, 2 ~{RST}/C2CK, 3 VRTC/BKP, 4 XTAL4, 5 XTAL5, 6 GND, 7 VDD, 8 VREGIN, 9 P1.0/XTAL1, 10 P1.1/XTAL2, 11 P1.2/VREF, 12 P1.3, 13 P1.4, 14 P1.5, 15 P1.6, 16 P1.7, 17 P0.0/IDAC0, 18 P0.0/IDAC1, 19 P0.2, 20 P0.3, 21 P0.4/TX, 22 P0.5/RX, 23 P0.6/CNVSTR, 24 P0.7, 25 P2.0, 26 P2.1, 27 P2.2, 28 P2.3, 29 P2.4, 30 P2.5, 31 P2.6, 32 P2.7/C2D

## C8051F502
designator U?  Supplier Part Number 1: 336-1514-ND
Supplier 1: Digi-Key
pins: 1 P0.1, 2 VIO, 3 VREGIN, 4 VDD, 5 VDDA, 6 GND, 7 GNDA, 8 P0.0, 9 P3.0/C2D, 10 ~{RST}/C2CK, 11 P2.7, 12 P2.6, 13 P2.5, 14 P2.4, 15 P2.3, 16 P2.2, 17 P2.1, 18 P2.0, 19 P1.7, 20 P1.6, 21 P1.5, 22 P1.4, 23 P1.3, 24 P1.2, 25 P1.1, 26 P1.0, 27 P0.7, 28 P0.6, 29 P0.5, 30 P0.4, 31 P0.3, 32 P0.2

## C8051F824
designator U?
pins: 1 P0.2/XTAL, 2 P0.1, 3 P0.0/VREF, 4 GND, 5 VDD, 6 ~{RST}/CLK, 7 P2.0/CSD, 8 P1.3, 9 P1.2, 10 P1.1, 11 P1.0, 12 P0.7, 13 P0.6/CNVSTR, 14 P0.5, 15 P0.4, 16 P0.3/XTAL2

## C8051T606
designator U?, comment C8051T600
Led 0805 Red; Supplier 1: Digi-Key
pins: 1 P0.1, 2 VDD, 3 P0.2/VDD, 4 P0.3/EXTCLK, 5 P0.4, 6 P0.5, 7 ~{RST}/C2CK, 8 GND, 9 P0.7/C2D

## C+
designator C?
Capacitor
pins: 1 +, 2 -

## C+2312
designator C?
Capacitor
footprint CAPPM6032X280N
pins: 1 +, 2 -

## C/0603/1nF
designator C?, comment 1nF  Dielectric: X7R  Supplier Part Number 1: 445-5080-2-ND
Capacitor; Voltage: 50V; Supplier 1: Digi-Key
footprint SM/0805 (Chip Resistor, Body 2.0x1.3mm, IPC Low Density)
footprint SM/0603 (Chip Resistor, Body 1.6x0.8mm, IPC Low Density)
pins: 1, 2

## C/0603/10nF
designator C?, comment 10nF
Capacitor; Voltage: 50V; Supplier 1: Digi-Key; Supplier 2: Farnell; Supplier Part Number 1: 490-1512-2-ND; Supplier Part Number 2: 1816819
footprint SM/0805 (Chip Resistor, Body 2.0x1.3mm, IPC Low Density)
footprint SM/0603 (Chip Resistor, Body 1.6x0.8mm, IPC Low Density)
pins: 1, 2

## C/0603/100nF
designator C?, comment 100nF
Capacitor
footprint SM/0805 (Chip Resistor, Body 2.0x1.3mm, IPC Low Density)
pins: 1, 2

## C/0805
designator C?
Capacitor
footprint SM/0805 (Chip Resistor, Body 2.0x1.3mm, IPC Low Density)
pins: 1, 2

## C/0805/470nF
designator C?, comment 470nF
Capacitor; Supplier 1: Digi-Key; Supplier 2: Farnell; Supplier Part Number 1: 490-1737-2-ND; Supplier Part Number 2: 1582702
footprint SM/0805 (Chip Resistor, Body 2.0x1.3mm, IPC Low Density)
pins: 1, 2

## C/1206/10uF
designator C?, comment 10uF  Dielectric: Y5V
Capacitor; Voltage: 50V; Supplier 1: Digi-Key
footprint SM/0805 (Chip Resistor, Body 2.0x1.3mm, IPC Low Density)
footprint SM/0603 (Chip Resistor, Body 1.6x0.8mm, IPC Low Density)
footprint SM/1206 (Chip Resistor, Body 3.2x1.6mm, IPC Low Density)
pins: 1, 2

## C/1206/10uF_1
designator C?, comment 10uF  Dielectric: Y5V
Capacitor; Voltage: 50V; Supplier 1: Digi-Key
footprint SM/0805 (Chip Resistor, Body 2.0x1.3mm, IPC Low Density)
footprint SM/0603 (Chip Resistor, Body 1.6x0.8mm, IPC Low Density)
footprint SM/1206 (Chip Resistor, Body 3.2x1.6mm, IPC Low Density)
pins: 1, 2

## C_2
designator C?, comment 100n  Voltage: 100V
Chip Capacitor; Dielectric: X7R; Supplier 1: Digi-Key; Supplier Part Number 1: 1276-6634-1-ND
footprint SM/C1206 (Chip Resistor, Body 3.2x1.6mm, IPC Low Density)
pins: 1, 2

## C_3
designator C?, comment 100n  Voltage: 100V
Chip Capacitor; Dielectric: X7R; Supplier 1: Digi-Key; Supplier Part Number 1: 1276-6634-1-ND
footprint SM/C1206 (Chip Resistor, Body 3.2x1.6mm, IPC Low Density)
pins: 1, 2

## C_4
designator C?, comment 100n  Voltage: 100V
Chip Capacitor; Dielectric: X7R; Supplier 1: Digi-Key; Supplier Part Number 1: 1276-6634-1-ND
footprint SM/C1206 (Chip Resistor, Body 3.2x1.6mm, IPC Low Density)
pins: 1, 2

## C_5
designator C?, comment 100n  Voltage: 100V
Chip Capacitor; Dielectric: X7R; Supplier 1: Digi-Key; Supplier Part Number 1: 1276-6634-1-ND
footprint SM/C1206 (Chip Resistor, Body 3.2x1.6mm, IPC Low Density)
pins: 1, 2

## C_6
designator C?, comment 100n  Voltage: 100V
Chip Capacitor; Dielectric: X7R; Supplier 1: Digi-Key; Supplier Part Number 1: 1276-6634-1-ND
footprint SM/C1206 (Chip Resistor, Body 3.2x1.6mm, IPC Low Density)
pins: 1, 2

## CAP CER 22UF 25V X5R 0805
designator C?, comment 22u  Voltage: 25V
22 µF ±20% 25V Ceramic Capacitor X5R 0805 (2012 Metric); Dielectric: X5R; Supplier 1: Digi-Key; Supplier Part Number 1: 490-14661-1-ND
footprint SM/C0805 (Chip Resistor, Body 2.0x1.3mm, IPC Low Density)
pins: 1, 2

## CD4511B
designator U?  Supplier Part Number 1: 296-3528-2-ND
IC 7-SEG LED DECOD/DRVR 16-SOP; Supplier 1: Digi-Key
footprint SOIC16 (SOIC, 16-Leads, Body 10.0x4.0mm (max), Pitch 1.27mm, IPC Low Density)
pins: 1 B, 2 C, 3 ~{LT}, 4 ~{BL}, 5 LE/~{STR}, 6 D, 7 A, 8 VSS, 9 e, 10 d, 11 c, 12 b, 13 a, 14 g, 15 f, 16 VDD

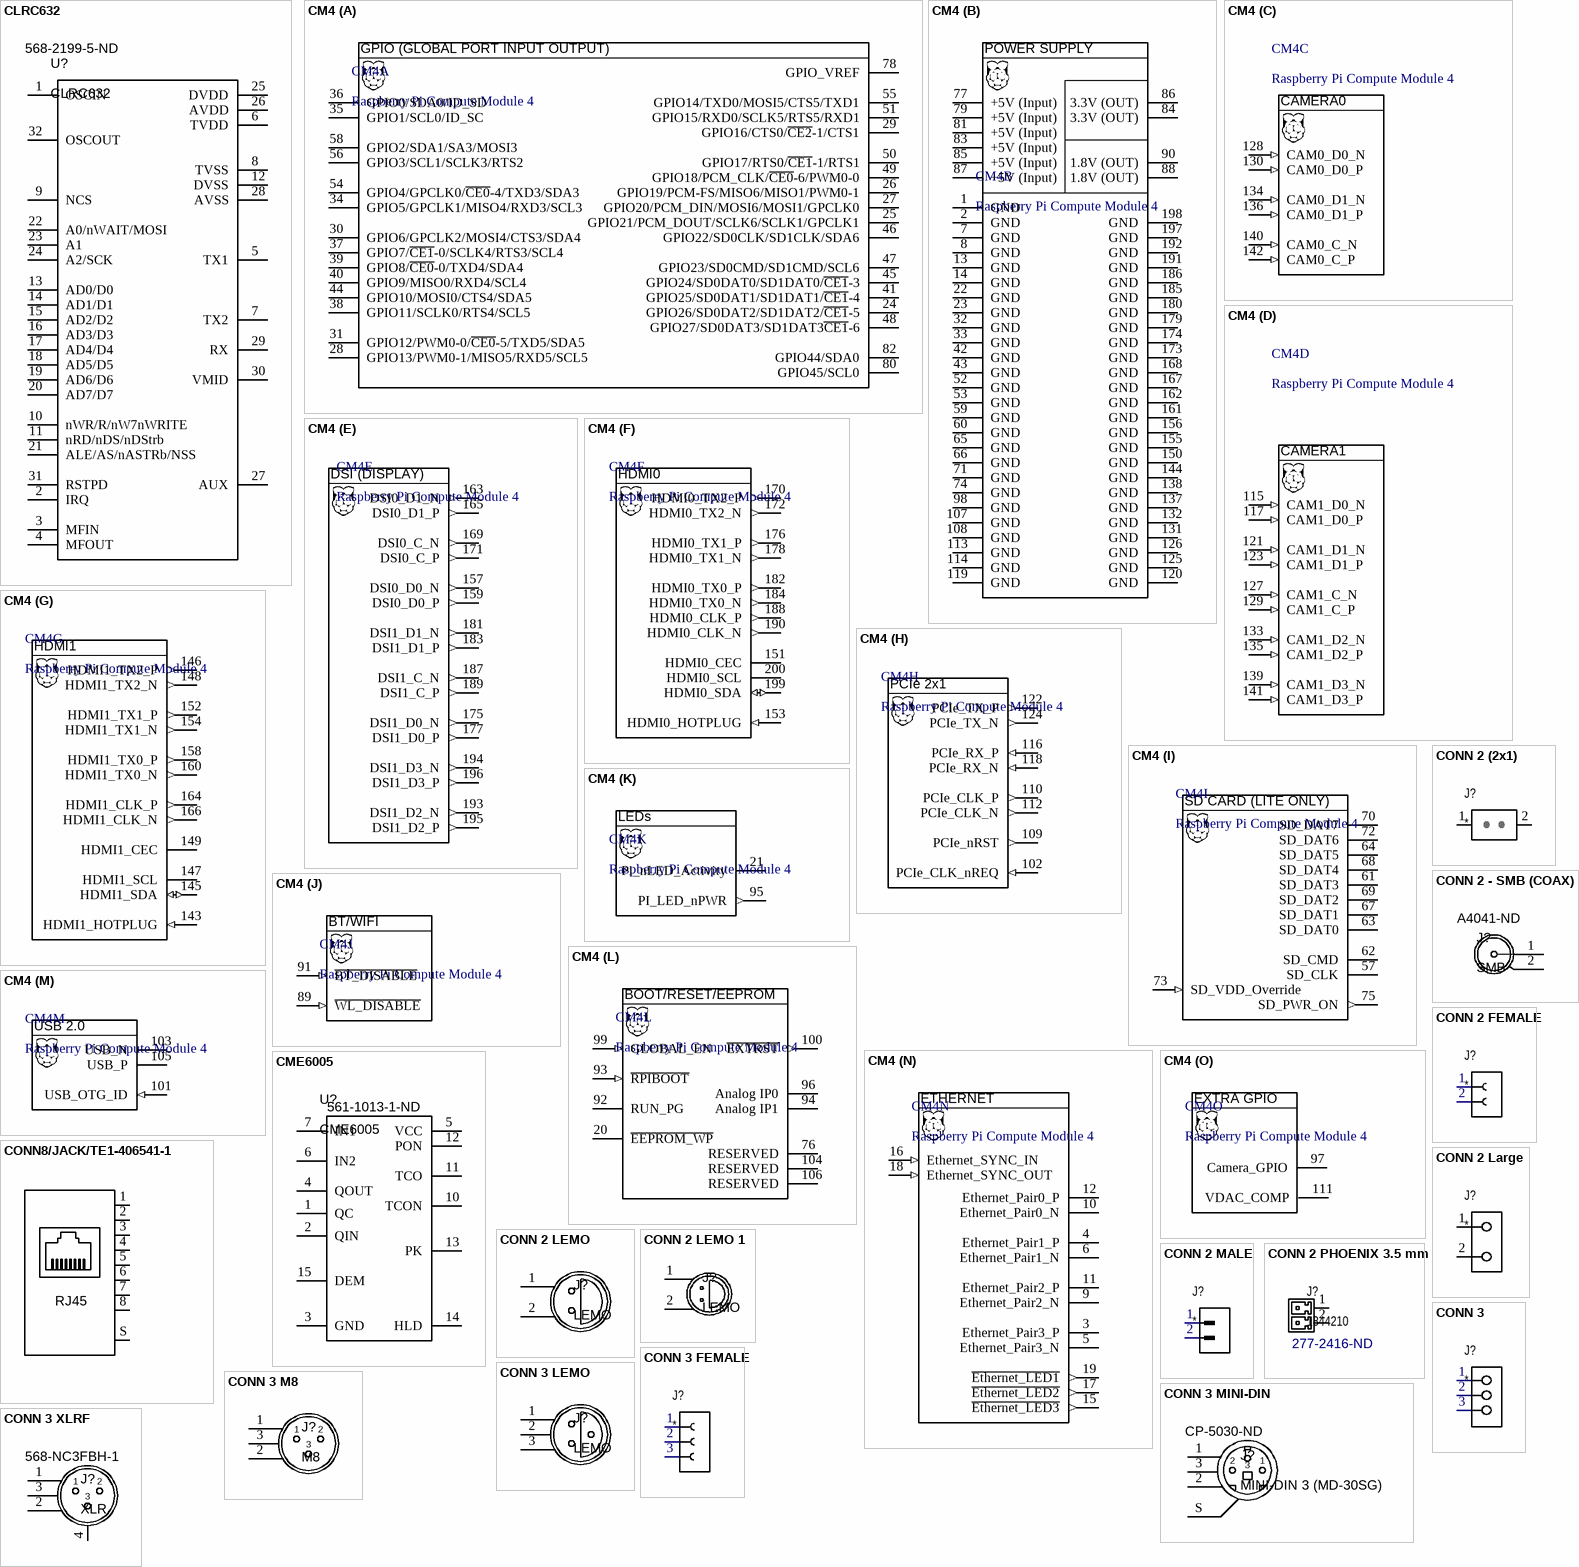
[diagram p4: symbols CLRC632 to CONN 3 XLRF]

## CLRC632
designator U?  Supplier Part Number 1: 568-2199-5-ND
Supplier 1: Digi-Key
pins: 1 OSCIN, 2 IRQ, 3 MFIN, 4 MFOUT, 5 TX1, 6 TVDD, 7 TX2, 8 TVSS, 9 NCS, 10 nWR/R/nW7nWRITE, 11 nRD/nDS/nDStrb, 12 DVSS, 13 AD0/D0, 14 AD1/D1, 15 AD2/D2, 16 AD3/D3, 17 AD4/D4, 18 AD5/D5, 19 AD6/D6, 20 AD7/D7, 21 ALE/AS/nASTRb/NSS, 22 A0/nWAIT/MOSI, 23 A1, 24 A2/SCK, 25 DVDD, 26 AVDD, 27 AUX, 28 AVSS, 29 RX, 30 VMID, 31 RSTPD, 32 OSCOUT

## CM4
designator CM4, comment Raspberry Pi Compute Module 4
Raspberry Pi Compute Module 4 by Amornthep Phunsin
footprint CM4-F40C-100DS-0.4v_1.5mm_0mm (DF40C-100DS-0.4v)
footprint CM4-DF40HC(3.0)-100DS-0.4v_3mm_1.5mm (DF40HC(3.0)-100DS-0.4v)
footprint CM4-RASPBERRY-PI4 (DF40C-100DS-0.4v by Amornthep Phunsin)
part A pins: 24 GPIO26/SD0DAT2/SD1DAT2/~{CE1}-5 "Pin37", 25 GPIO21/PCM_DOUT/SCLK6/SCLK1/GPCLK1 "Pin40", 26 GPIO19/PCM-FS/MISO6/MISO1/PWM0-1 "Pin35", 27 GPIO20/PCM_DIN/MOSI6/MOSI1/GPCLK0 "Pin38", 28 GPIO13/PWM0-1/MISO5/RXD5/SCL5 "Pin33 PWM1", 29 GPIO16/CTS0/~{CE2}-1/CTS1 "Pin36", 30 GPIO6/GPCLK2/MOSI4/CTS3/SDA4 "Pin31", 31 GPIO12/PWM0-0/~{CE0}-5/TXD5/SDA5 "Pin32 PWM0", 34 GPIO5/GPCLK1/MISO4/RXD3/SCL3 "Pin29", 35 GPIO1/SCL0/ID_SC "Pin28 GPIO1 SCL0", 36 GPIO0/SDA0/ID_SD "Pin27 GPIO0 SDA0", 37 GPIO7/~{CE1}-0/SCLK4/RTS3/SCL4 "Pin26 SPI0_CE1", 38 GPIO11/SCLK0/RTS4/SCL5 "Pin23 SPI0_CLK", 39 GPIO8/~{CE0}-0/TXD4/SDA4 "Pin24 SPI0_CE0", 40 GPIO9/MISO0/RXD4/SCL4 "Pin21 SPI0_MISO", 41 GPIO25/SD0DAT1/SD1DAT1/~{CE1}-4 "Pin22", 44 GPIO10/MOSI0/CTS4/SDA5 "Pin19 SPI0_MOSI", 45 GPIO24/SD0DAT0/SD1DAT0/~{CE1}-3 "Pin18", 46 GPIO22/SD0CLK/SD1CLK/SDA6 "Pin15", 47 GPIO23/SD0CMD/SD1CMD/SCL6 "Pin16", 48 GPIO27/SD0DAT3/SD1DAT3~{CE1}-6 "Pin13", 49 GPIO18/PCM_CLK/~{CE0}-6/PWM0-0 "Pin12", 50 GPIO17/RTS0/~{CE1}-1/RTS1 "Pin11", 51 GPIO15/RXD0/SCLK5/RTS5/RXD1 "Pin10 RXD0", 54 GPIO4/GPCLK0/~{CE0}-4/TXD3/SDA3 "Pin7 GPCLK0", 55 GPIO14/TXD0/MOSI5/CTS5/TXD1 "Pin8 TXD0", 56 GPIO3/SCL1/SCLK3/RTS2 "Pin5 SCL1 Internal 1.8K pull up", 58 GPIO2/SDA1/SA3/MOSI3 "Pin3 SDA1 Internal 1.8K pull up", 78 GPIO_VREF (power) "Must be connected to CM4_3.3V ( pins 84 and 86 ) for 3.3V GPIO or CM4_1.8V ( pins 88 and 90) for 1.8V GPIO. This pin cannot be floating or connected to ground", 80 GPIO45/SCL0 "IIC Clock pin ( Raspberry Pi GPIO45) Typically used for Camera and Displays Internal 1.8K pull up to CM4_3.3V", 82 GPIO44/SDA0 "IIC Data pin ( Raspberry Pi GPIO44 ) Typically used for Camera and Displays Internal 1.8K pull up to CM4_3.3V"
part B pins: 1 GND (power) "Ground (0V)", 2 GND (power) "Ground (0V)", 7 GND (power) "Ground (0V)", 8 GND (power) "Ground (0V)", 13 GND (power) "Ground (0V)", 14 GND (power) "Ground (0V)", 22 GND (power) "Ground (0V)", 23 GND (power) "Ground (0V)", 32 GND (power) "Ground (0V)", 33 GND (power) "Ground (0V)", 42 GND (power) "Ground (0V)", 43 GND (power) "Ground (0V)", 52 GND (power) "Ground (0V)", 53 GND (power) "Ground (0V)", 59 GND (power) "Ground (0V)", 60 GND (power) "Ground (0V)", 65 GND (power) "Ground (0V)", 66 GND (power) "Ground (0V)", 71 GND (power) "Ground (0V)", 74 GND (power) "Ground (0V)", 77 +5V (Input) (power) "4.75V-5.25V Main power input", 79 +5V (Input) (power) "4.75V-5.25V Main power input", 81 +5V (Input) (power) "4.75V-5.25V Main power input", 83 +5V (Input) (power) "4.75V-5.25V Main power input", 84 3.3V (OUT) (power) "3.3V +/-2.5% Power Output max 300mA per pin for a total of 600mA. This will be powered down during power off or GLOBAL_EN being set low", 85 +5V (Input) (power) "4.75V-5.25V Main power input", 86 3.3V (OUT) (power) "3.3V +/-2.5% Power Output max 300mA per pin for a total of 600mA. This will be powered down during power off or GLOBAL_EN being set low", 87 +5V (Input) (power) "4.75V-5.25V Main power input", 88 1.8V (OUT) (power) "1.8V +/-2.5% Power Output max 300mA per pin for a total of 600mA. This will be powered down during power off or GLOBAL_EN being set low", 90 1.8V (OUT) (power) "1.8V +/-2.5% Power Output max 300mA per pin for a total of 600mA. This will be powered down during power off or GLOBAL_EN being set low", 98 GND (power) "Ground (0V)", 107 GND (power) "Ground (0V)", 108 GND (power) "Ground (0V)", 113 GND (power) "Ground (0V)", 114 GND (power) "Ground (0V)", 119 GND (power) "Ground (0V)", 120 GND (power) "Ground (0V)", 125 GND (power) "Ground (0V)", 126 GND (power) "Ground (0V)", 131 GND (power) "Ground (0V)", 132 GND (power) "Ground (0V)", 137 GND (power) "Ground (0V)", 138 GND (power) "Ground (0V)", 144 GND (power) "Ground (0V)", 150 GND (power) "Ground (0V)", 155 GND (power) "Ground (0V)", 156 GND (power) "Ground (0V)", 161 GND (power) "Ground (0V)", 162 GND (power) "Ground (0V)", 167 GND (power) "Ground (0V)", 168 GND (power) "Ground (0V)", 173 GND (power) "Ground (0V)", 174 GND (power) "Ground (0V)", 179 GND (power) "Ground (0V)", 180 GND (power) "Ground (0V)", 185 GND (power) "Ground (0V)", 186 GND (power) "Ground (0V)", 191 GND (power) "Ground (0V)", 192 GND (power) "Ground (0V)", 197 GND (power) "Ground (0V)", 198 GND (power) "Ground (0V)"
part C pins: 128 CAM0_D0_N (in) "Input Camera0 D0 Negative", 130 CAM0_D0_P (in) "Input Camera0 D0 Positive", 134 CAM0_D1_N (in) "Input Camera0 D1 Negative", 136 CAM0_D1_P (in) "Input Camera0 D1 Positive", 140 CAM0_C_N (in) "Input Camera0 Clock Negative", 142 CAM0_C_P (in) "Input Camera0 Clock Positive"
part D pins: 115 CAM1_D0_N (in) "Input Camera1 D0 Negative", 117 CAM1_D0_P (in) "Input Camera1 D0 Positive", 121 CAM1_D1_N (in) "Input Camera1 D1 Negative", 123 CAM1_D1_P (in) "Input Camera1 D1 Positive", 127 CAM1_C_N (in) "Input Camera1 Clock Negative", 129 CAM1_C_P (in) "Input Camera1 Clock Positive", 133 CAM1_D2_N (in) "Input Camera1 D2 Negative", 135 CAM1_D2_P (in) "Input Camera1 D2 Positive", 139 CAM1_D3_N (in) "Input Camera1 D3 Negative", 141 CAM1_D3_P (in) "Input Camera1 D3 Positive"
part E pins: 157 DSI0_D0_N (out) "Output Display0 D0 Negative", 159 DSI0_D0_P (out) "Output Display0 D0 Positive", 163 DSI0_D1_N (out) "Output Display0 D1 Negative", 165 DSI0_D1_P (out) "Output Display0 D1 Positive", 169 DSI0_C_N (out) "Output Display0 Clock Negative", 171 DSI0_C_P (out) "Output Display0 Clock Positive", 175 DSI1_D0_N (out) "Output Display1 D0 Negative", 177 DSI1_D0_P (out) "Output Display1 D0 Positive", 181 DSI1_D1_N (out) "Output Display1 D1 Negative", 183 DSI1_D1_P (out) "Output Display1 D1 Positive", 187 DSI1_C_N (out) "Output Display1 Clock Negative", 189 DSI1_C_P (out) "Output Display1 Clock Positive", 193 DSI1_D2_N (out) "Output Display1 D2 Negative", 194 DSI1_D3_N (out) "Output Display1 D3 Negative", 195 DSI1_D2_P (out) "Output Display1 D2 Positive", 196 DSI1_D3_P (out) "Output Display1 D3 Positive"
part F pins: 151 HDMI0_CEC (oc) "Input HDMI0 CEC Internally pulled up with a 27K. 5V tolerant (It can be connected directly to a HDMI connector a small amount of ESD protection is provided on the CM4 by an on board HDMI05-CL02F3)", 153 HDMI0_HOTPLUG (in) "Input HDMI0 Hotplug Internally pulled down 100K. 5V tolerant. (It can be connected directly to a HDMI connector a small amount of ESD protection is provided on the CM4 by an on board HDMI05-CL02F3)", 170 HDMI0_TX2_P (out) "Output HDMI0 TX2 Positive", 172 HDMI0_TX2_N (out) "Output HDMI0 TX2 Negative", 176 HDMI0_TX1_P (out) "Output HDMI0 TX1 Positive", 178 HDMI0_TX1_N (out) "Output HDMI0 TX1 Negative", 182 HDMI0_TX0_P (out) "Output HDMI0 TX0 Positive", 184 HDMI0_TX0_N (out) "Output HDMI0 TX0 Negative", 188 HDMI0_CLK_P (out) "Output HDMI0 Clock Positive", 190 HDMI0_CLK_N (out) "Output HDMI0 Clock Negative", 199 HDMI0_SDA (io) "Bidir HDMI0 SDA Internally pulled up with a 1.8K. 5V tolerant. (It can be connected directly to a HDMI connector a small amount of ESD protection is provided on the CM4 by an on board HDMI05-CL02F3)", 200 HDMI0_SCL (oc) "Bidir HDMI0 SCL Internally pulled up with a 1.8K. 5V tolerant. (It can be connected directly to a HDMI connector a small amount of ESD protection is provided on the CM4 by an on board HDMI05-CL02F3)"
part G pins: 143 HDMI1_HOTPLUG (in) "Input HDMI1 Hotplug Internally pulled down with a 100K. 5V tolerant. (It can be connected directly to a HDMI connector a small amount of ESD protection is provided on the CM4 by an on board HDMI05-CL02F3)", 145 HDMI1_SDA (io) "Bidir HDMI1 SDA Internally pulled up with a 1.8K. 5V tolerant. (It can be connected directly to a HDMI connector a small amount of ESD protection is provided on the CM4 by an on board HDMI05-CL02F3)", 146 HDMI1_TX2_P (out) "Output HDMI1 TX2 Positive", 147 HDMI1_SCL (oc) "Input HDMI1 SCL Internally pulled up with a 1.8K. 5V tolerant. (It can be connected directly to a HDMI connector a small amount of ESD protection is provided on the CM4 by an on board HDMI05-CL02F3)", 148 HDMI1_TX2_N (out) "Output HDMI1 TX2 Negative", 149 HDMI1_CEC (oc) "Input HDMI1 CEC Internally pulled up with a 27K. 5V tolerant. (It can be connected directly to a HDMI connector a small amount of ESD protection is provided on the CM4 by an on board HDMI05-CL02F3)", 152 HDMI1_TX1_P (out) "Output HDMI1 TX1 Positive", 154 HDMI1_TX1_N (out) "Output HDMI1 TX1 Negative", 158 HDMI1_TX0_P (out) "Output HDMI1 TX0 Positive", 160 HDMI1_TX0_N (out) "Output HDMI1 TX0 Negative", 164 HDMI1_CLK_P (out) "Output HDMI1 Clock Positive", 166 HDMI1_CLK_N (out) "Output HDMI1 Clock Negative"
part H pins: 102 PCIe_CLK_nREQ (in) "Input ( 3.3V signal) PCIe Clock request pin (low to request PCI clock). Internal pulled up", 109 PCIe_nRST (out) "Output (+3.3V signal) PCIe Reset Low active", 110 PCIe_CLK_P (out) "PCIe Clock Out Positive (100MHz) NB AC coupling Capacitor Included on CM4", 112 PCIe_CLK_N (out) "PCIe Clock Out Negative (100MHz) NB AC coupling Capacitor Included on CM4", 116 PCIe_RX_P (in) "Input PCIe GEN 2 RX Positive NB External AC coupling Capacitor required", 118 PCIe_RX_N (in) "Input PCIe GEN 2 RX Negative NB External AC coupling Capacitor required", 122 PCIe_TX_P (out) "Output PCIe GEN 2 TX Positive NB AC coupling Capacitor Included on CM4", 124 PCIe_TX_N (out) "Output PCIe GEN 2 TX Positive NB AC coupling Capacitor Included on CM4"
part I pins: 57 SD_CLK "SDCARD Clock signal (only available on CM4Lite)", 61 SD_DAT3 "SDCARD/eMMC Data3 signal (only available on CM4Lite)", 62 SD_CMD "SDCARD/eMMC Command signal (only available on CM4Lite)", 63 SD_DAT0 "SDCARD/eMMC Data0 signal (only available on CM4Lite)", 64 SD_DAT5 "SDCARD/eMMC Data5 signal (only available on CM4Lite)", 67 SD_DAT1 "SDCARD/eMMC Data1 signal (only available on CM4Lite)", 68 SD_DAT4 "SDCARD/eMMC Data4 signal (only available on CM4Lite)", 69 SD_DAT2 "SDCARD/eMMC Data2 signal (only available on CM4Lite)", 70 SD_DAT7 "SDCARD/eMMC Data7 signal (only available on CM4Lite)", 72 SD_DAT6 "SDCARD/eMMC Data6 signal (only available on CM4Lite)", 73 SD_VDD_Override (in) "Force SDCARD/eMMC interface to 1.8V signalling if set to 3.3V, otherwise leave unconnected. Typically only used if external eMMC is connected", 75 SD_PWR_ON (out) "Output to Power switch for SDCARD. CM4 sets this pin High (3.3V) to signal that Power to the SDCARD should be turned on. If booting from the SDCARD is required then a pullup should be fitted (only available on CM4Lite)"
part J pins: 89 ~{WL_DISABLE} (in) "Can be left floating if driven low the wireless interface will be disabled. Internal pulled up via 1.8K to CM4_3.3V", 91 ~{BT_DISABLE} (in) "Can be left floating if driven low the Bluetooth interface will be disabled. Internal pulled up via 1.8K to CM4_3.3V"
part K pins: 21 Pi_nLED_Activity (oc) "Low Active Pi Activity LED. 20mA Max 5V tolerant ( VOL<0.4V). ( this is the signal that drives the Green LED on the Raspberry Pi 4, Model B )", 95 PI_LED_nPWR (out) "Low active Output to drive Power On LED. This signal needs to be buffered."
part L pins: 20 ~{EEPROM_WP} "Leaving floating NB internally pulled up to CM4_3.3V via 100K ( VIL <0.8V) but can be grounded to prevent writing to the on board EEPROM which stores the bootcode", 76 RESERVED "Do not Connect anything to this pin.", 92 RUN_PG "Bidirectional pin. Can be driven low ( via a 220R resistor) to Reset the CM4 CPU. As an Output a high signals Power Good and CPU running. Internally pulled up to +3.3V via 10K", 93 ~{RPIBOOT} (in) "A low on this pin force booting from an RPI server ( e.g PC or a Raspberry Pi)  if not used leave floating. Internally pulled via 10K to +3.3V", 94 Analog IP1 "Analogue input of the MAX7704. Typically connected to CC pin of Type C power connector", 96 Analog IP0 "Analogue input of the MAX7704. Typically connected to CC pin of Type C power connector", 99 GLOBAL_EN (in) "Input. Drive low to power off CM4. Internally pulled up with a 100K to +5V", 100 ~{EXTRST} (out) "Output Driven low during reset Driven high (CM4_3.3V) once CM4 CPU has started to boot", 104 RESERVED "Do not Connect anything to this pin.", 106 RESERVED "Do not Connect anything to this pin."
part M pins: 101 USB_OTG_ID (in) "Input ( 3.3V signal ) USB OTG Pin. Internal pulled up. When grounded the CM4 becomes a USB host but the correct OS driver also needs to be used", 103 USB_N "USB D-", 105 USB_P "USB D+"
part N pins: 3 Ethernet_Pair3_P "Ethernet Pair 3 Positive ( connect to Transformer or MagJack)", 4 Ethernet_Pair1_P "Ethernet Pair 1 Positive ( connect to Transformer or MagJack)", 5 Ethernet_Pair3_N "Ethernet Pair 3 Negative ( connect to Transformer or MagJack)", 6 Ethernet_Pair1_N "Ethernet Pair 1 Negative ( connect to Transformer or MagJack)", 9 Ethernet_Pair2_N "Ethernet Pair 2 Negative ( connect to Transformer or MagJack)", 10 Ethernet_Pair0_N "Ethernet Pair 0 Negative ( connect to Transformer or MagJack)", 11 Ethernet_Pair2_P "Ethernet Pair 2 Positive ( connect to Transformer or MagJack)", 12 Ethernet_Pair0_P "Ethernet Pair 0 Positive ( connect to Transformer or MagJack)", 15 ~{Ethernet_LED3} (out) "Low Active Ethernet Activity indicator ( 3.3V signal) Typically a Green LED is connected to this pin: IOL = 8mA @ VOL< 0.4V", 16 Ethernet_SYNC_IN (in) "IEEE1588 SYNC Input pin ( 1.8V signal : IOL = 8mA @ VOL< 0.4V )", 17 ~{Ethernet_LED2} (out) "Low Active Ethernet speed indicator ( 3.3V signal) Typically a Yellow LED is connected to this pin. A low State indicates the 1Gbit or 100Mbit Link : IOL = 8mA @ VOL< 0.4V", 18 Ethernet_SYNC_OUT (in) "IEEE1588 SYNC Output pin ( 1.8V signal : IOL = 8mA @ VOL< 0.4V )", 19 ~{Ethernet_LED1} (out) "Low Active Ethernet speed indicator ( 3.3V signal) Typically a Yellow LED is connected to this pin. A low State indicates the 1Gbit or 10Mbit Link : IOL = 8mA @ VOL< 0.4V"
part O pins: 97 Camera_GPIO "Typically used to Shutdown the camera to reduce power. Reassigning this pin to another function isn’t recommended. CM4_3.3V signalling", 111 VDAC_COMP "Video DAC output (TV OUT)"
part A text: GPIO (GLOBAL PORT INPUT OUTPUT)
part B text: POWER SUPPLY
part C text: CAMERA0
part D text: CAMERA1
part E text: DSI (DISPLAY)
part F text: HDMI0
part G text: HDMI1
part H text: PCIe 2x1
part I text: SD CARD (LITE ONLY)
part J text: BT/WIFI
part K text: LEDs
part L text: BOOT/RESET/EEPROM
part M text: USB 2.0
part N text: ETHERNET
part O text: EXTRA GPIO

## CME6005
designator U?  Supplier Part Number 1: 561-1013-1-ND
Single and dual band receiver IC; Supplier 1: Digi-Key
pins: 1 QC, 2 QIN, 3 GND, 4 QOUT, 5 VCC, 6 IN2, 7 IN1, 10 TCON, 11 TCO, 12 PON, 13 PK, 14 HLD, 15 DEM

## CONN8/JACK/TE1-406541-1
designator P?, comment 1-406541-1
Supplier 1: Digi-Key
footprint TE/1-406541-1
pins: 1, 2, 3, 4, 5, 6, 7, 8, S
text: RJ45

## CONN 2 (2x1)
designator J?
footprint CONN/HEADER/2.54mm/2POS
pins: 1, 2

## CONN 2 - SMB (COAX)
designator J?, comment SMB  Supplier Part Number 1: A4041-ND
Supplier 1: Digi-Key
footprint TE/413990-1
pins: 1, 2

## CONN 2 FEMALE
designator J?
pins: 1, 2

## CONN 2 Large
designator J?
pins: 1, 2

## CONN 2 LEMO
designator J?, comment LEMO
footprint LEMO/ECG.302
pins: 1, 2

## CONN 2 LEMO 1
designator J?, comment LEMO
footprint LEMO/ECG.302
pins: 1, 2

## CONN 2 MALE
designator J?
pins: 1, 2

## CONN 2 PHOENIX 3.5 mm
designator J?, comment 1844210  Supplier Part Number 1: 277-2416-ND
TERM BLOCK HDR 2POS 90DEG 3.5MM; Imax: 8A; Supplier 1: Digi-Key
footprint CONN2/PHOENIX/MC 1.5-2-G-3.5
pins: 1, 2

## CONN 3
designator J?
pins: 1, 2, 3

## CONN 3 FEMALE
designator J?
pins: 1, 2, 3

## CONN 3 LEMO
designator J?, comment LEMO
pins: 1, 2, 3

## CONN 3 M8
designator J?, comment M8
footprint NEUTRIK/NC3FBH1
pins: 1, 2, 3

## CONN 3 MINI-DIN
designator J?, comment MINI-DIN 3 (MD-30SG)  Supplier Part Number 1: CP-5030-ND
Supplier 1: Digi-Key
footprint MD-30SG
pins: 1, 2, 3, S

## CONN 3 XLRF
designator J?, comment XLR  Supplier Part Number 1: 568-NC3FBH-1
Supplier 1: Mouser
footprint NEUTRIK/NC3FBH1
pins: 1, 2, 3, 4

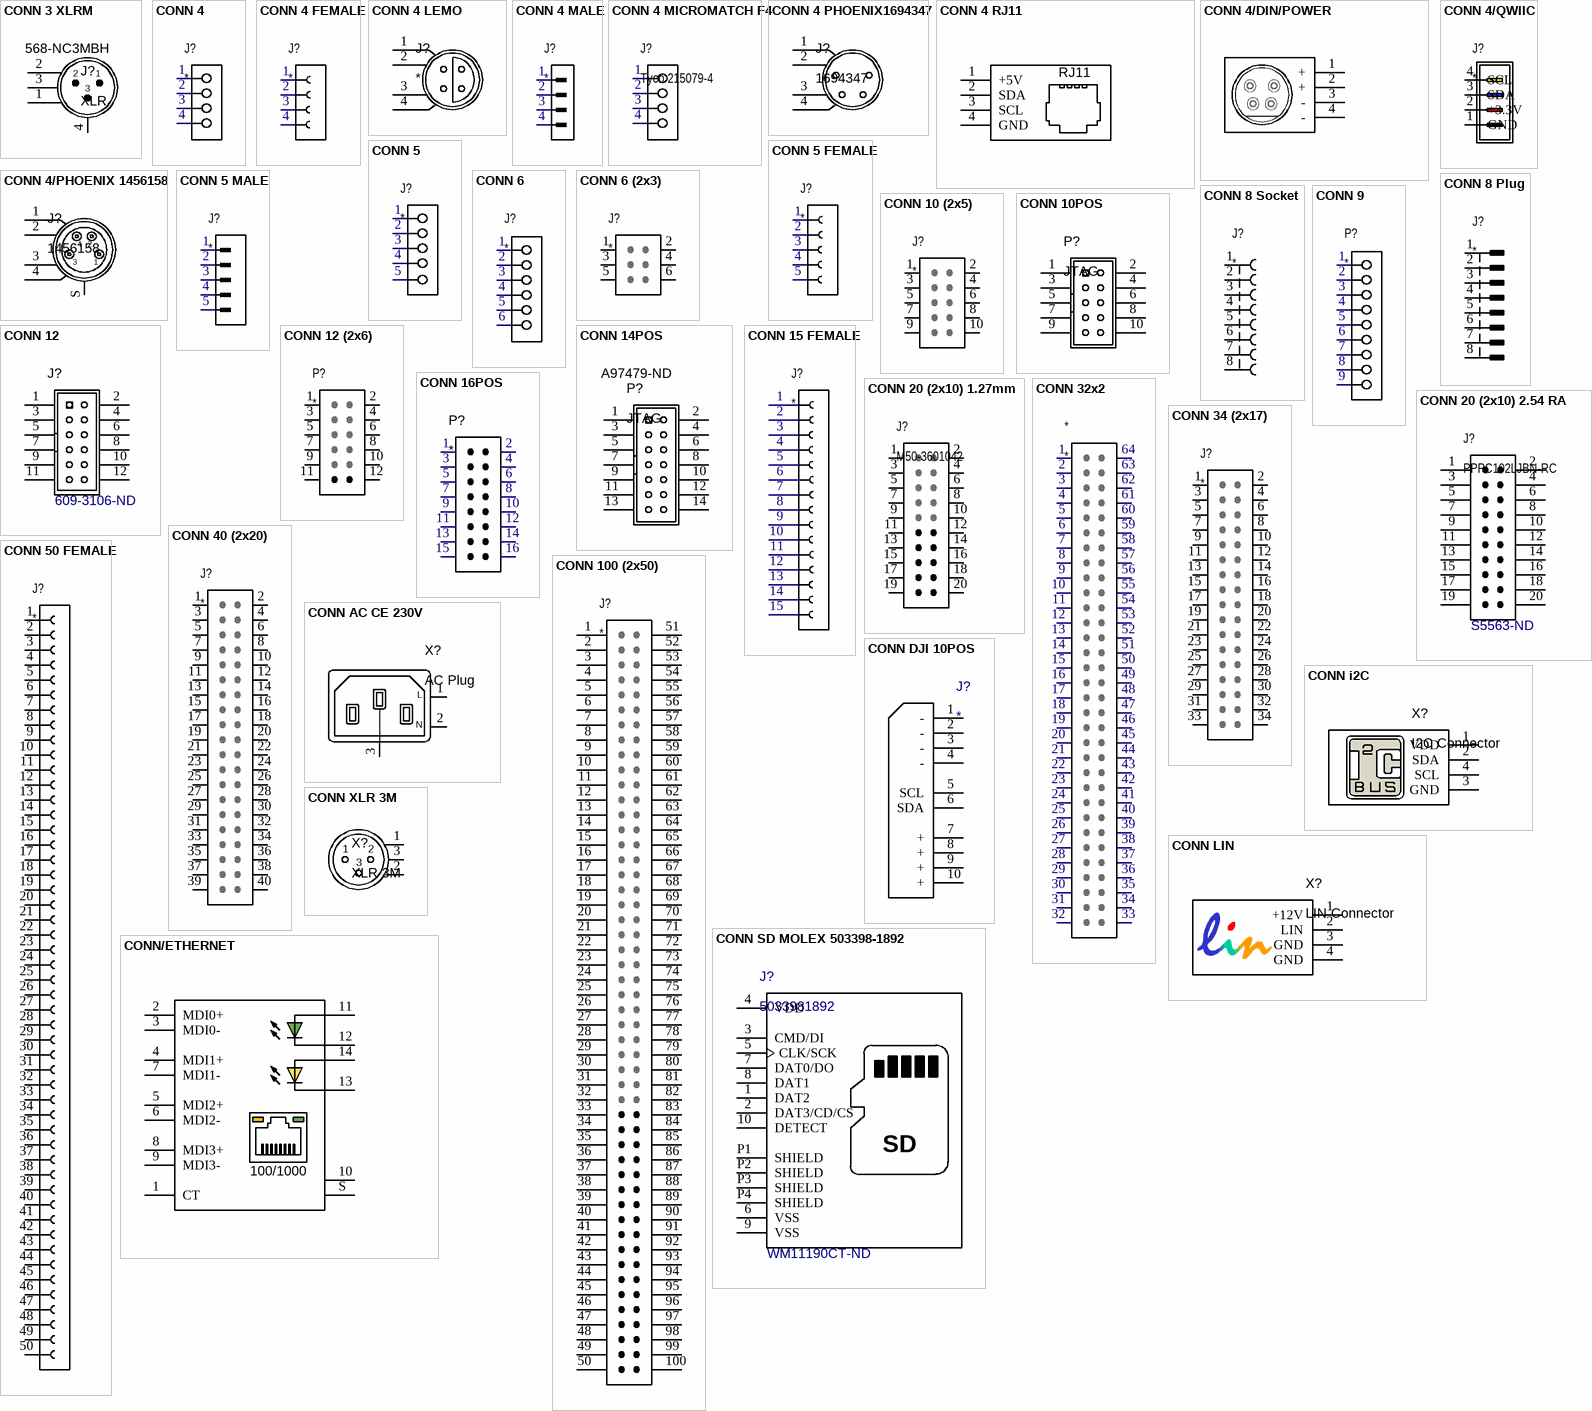
[diagram p5: symbols CONN 3 XLRM to CONN/ETHERNET]

## CONN 3 XLRM
designator J?, comment XLR  Supplier Part Number 1: 568-NC3MBH
Supplier 1: Mouser
footprint NEUTRIK/NC3MBH
pins: 1, 2, 3, 4

## CONN 4
designator J?
pins: 1, 2, 3, 4

## CONN 4 FEMALE
designator J?
pins: 1, 2, 3, 4

## CONN 4 LEMO
designator J?
footprint LEMO/ECG.304
pins: 1, 2, 3, 4

## CONN 4 MALE
designator J?
pins: 1, 2, 3, 4

## CONN 4 MICROMATCH F4
designator J?, comment Tyco 215079-4
footprint TYCO/215079-4
pins: 1, 2, 3, 4

## CONN 4 PHOENIX1694347
designator J?, comment 1694347
footprint LEMO/ECG.304
pins: 1, 2, 3, 4

## CONN 4 RJ11
designator J?, comment RJ11
Supplier 1: Digi-Key
footprint SM/0805 (Chip Resistor, Body 2.0x1.3mm, IPC Low Density)
pins: 1 +5V, 2 SDA, 3 SCL, 4 GND

## CONN 4/DIN/POWER
designator J?, comment Power
Power Din Connector; Supplier 1: Digi-Key
pins: 1 +, 2 +, 3 -, 4 -

## CONN 4/PHOENIX 1456158
designator J?, comment 1456158
footprint PHOENIX/1456158
pins: 1, 2, 3, 4, S

## CONN 4/QWIIC
designator J?
JST Sparkfun Qwiic Connector; Value: Sparkfun Qwiic
footprint QWIIC-SM04B-SRSS-TB
pins: 1 GND (power), 2 +3.3V (power), 3 SDA (oc), 4 SCL (oc)

## CONN 5
designator J?
pins: 1, 2, 3, 4, 5

## CONN 5 FEMALE
designator J?
pins: 1, 2, 3, 4, 5

## CONN 5 MALE
designator J?
pins: 1, 2, 3, 4, 5

## CONN 6
designator J?
pins: 1, 2, 3, 4, 5, 6

## CONN 6 (2x3)
designator J?
pins: 1, 2, 3, 4, 5, 6
1 alternate drawing of the same symbol

## CONN 8 Plug
designator J?
pins: 1, 2, 3, 4, 5, 6, 7, 8

## CONN 8 Socket
designator J?
pins: 1, 2, 3, 4, 5, 6, 7, 8

## CONN 9
designator P?
pins: 1, 2, 3, 4, 5, 6, 7, 8, 9

## CONN 10 (2x5)
designator J?
pins: 1, 2, 3, 4, 5, 6, 7, 8, 9, 10

## CONN 10POS
designator P?, comment JTAG
footprint HE/2.54/10/1
pins: 1, 2, 3, 4, 5, 6, 7, 8, 9, 10

## CONN 12
designator J?  Supplier Part Number 1: 609-3106-ND
Supplier 1: Digi-Key
footprint CONN14 2mm (98414-G06-12ULF)
pins: 1, 2, 3, 4, 5, 6, 7, 8, 9, 10, 11, 12

## CONN 12 (2x6)
designator P?
footprint PPTC062LJBN-RC
pins: 1, 2, 3, 4, 5, 6, 7, 8, 9, 10, 11, 12

## CONN 14POS
designator P?, comment JTAG  Supplier Part Number 1: A97479-ND
Supplier 1: Digi-Key
footprint HE/2.54/14/2
pins: 1, 2, 3, 4, 5, 6, 7, 8, 9, 10, 11, 12, 13, 14

## CONN 15 FEMALE
designator J?
pins: 1, 2, 3, 4, 5, 6, 7, 8, 9, 10, 11, 12, 13, 14, 15

## CONN 16POS
designator P?
pins: 1, 2, 3, 4, 5, 6, 7, 8, 9, 10, 11, 12, 13, 14, 15, 16
1 alternate drawing of the same symbol

## CONN 20 (2x10) 1.27mm
designator J?, comment M50-3601042
footprint HARWIN/M50-3601042 (Footprint not found)
pins: 1, 2, 3, 4, 5, 6, 7, 8, 9, 10, 11, 12, 13, 14, 15, 16, 17, 18, 19, 20
1 alternate drawing of the same symbol

## CONN 20 (2x10) 2.54 RA
designator J?, comment PPPC102LJBN-RC  Supplier Part Number 1: S5563-ND
Supplier 1: Digi-Key
footprint HE/2.54/20F RA
pins: 1, 2, 3, 4, 5, 6, 7, 8, 9, 10, 11, 12, 13, 14, 15, 16, 17, 18, 19, 20
1 alternate drawing of the same symbol

## CONN 32x2
designator *
pins: 1, 2, 3, 4, 5, 6, 7, 8, 9, 10, 11, 12, 13, 14, 15, 16, 17, 18, 19, 20, 21, 22, 23, 24, 25, 26, 27, 28, 29, 30, 31, 32, 33, 34, 35, 36, 37, 38, 39, 40, 41, 42, 43, 44, 45, 46, 47, 48, 49, 50, 51, 52, 53, 54, 55, 56, 57, 58, 59, 60, 61, 62, 63, 64
1 alternate drawing of the same symbol

## CONN 34 (2x17)
designator J?
pins: 1, 2, 3, 4, 5, 6, 7, 8, 9, 10, 11, 12, 13, 14, 15, 16, 17, 18, 19, 20, 21, 22, 23, 24, 25, 26, 27, 28, 29, 30, 31, 32, 33, 34
1 alternate drawing of the same symbol

## CONN 40 (2x20)
designator J?
pins: 1, 2, 3, 4, 5, 6, 7, 8, 9, 10, 11, 12, 13, 14, 15, 16, 17, 18, 19, 20, 21, 22, 23, 24, 25, 26, 27, 28, 29, 30, 31, 32, 33, 34, 35, 36, 37, 38, 39, 40
1 alternate drawing of the same symbol